# Altium schematic symbol library dungvh03-CERN_Logic.SchLib: 486 symbols (part 1 of 54)
Pins are listed as number, name and electrical type; pins without a type are passive.

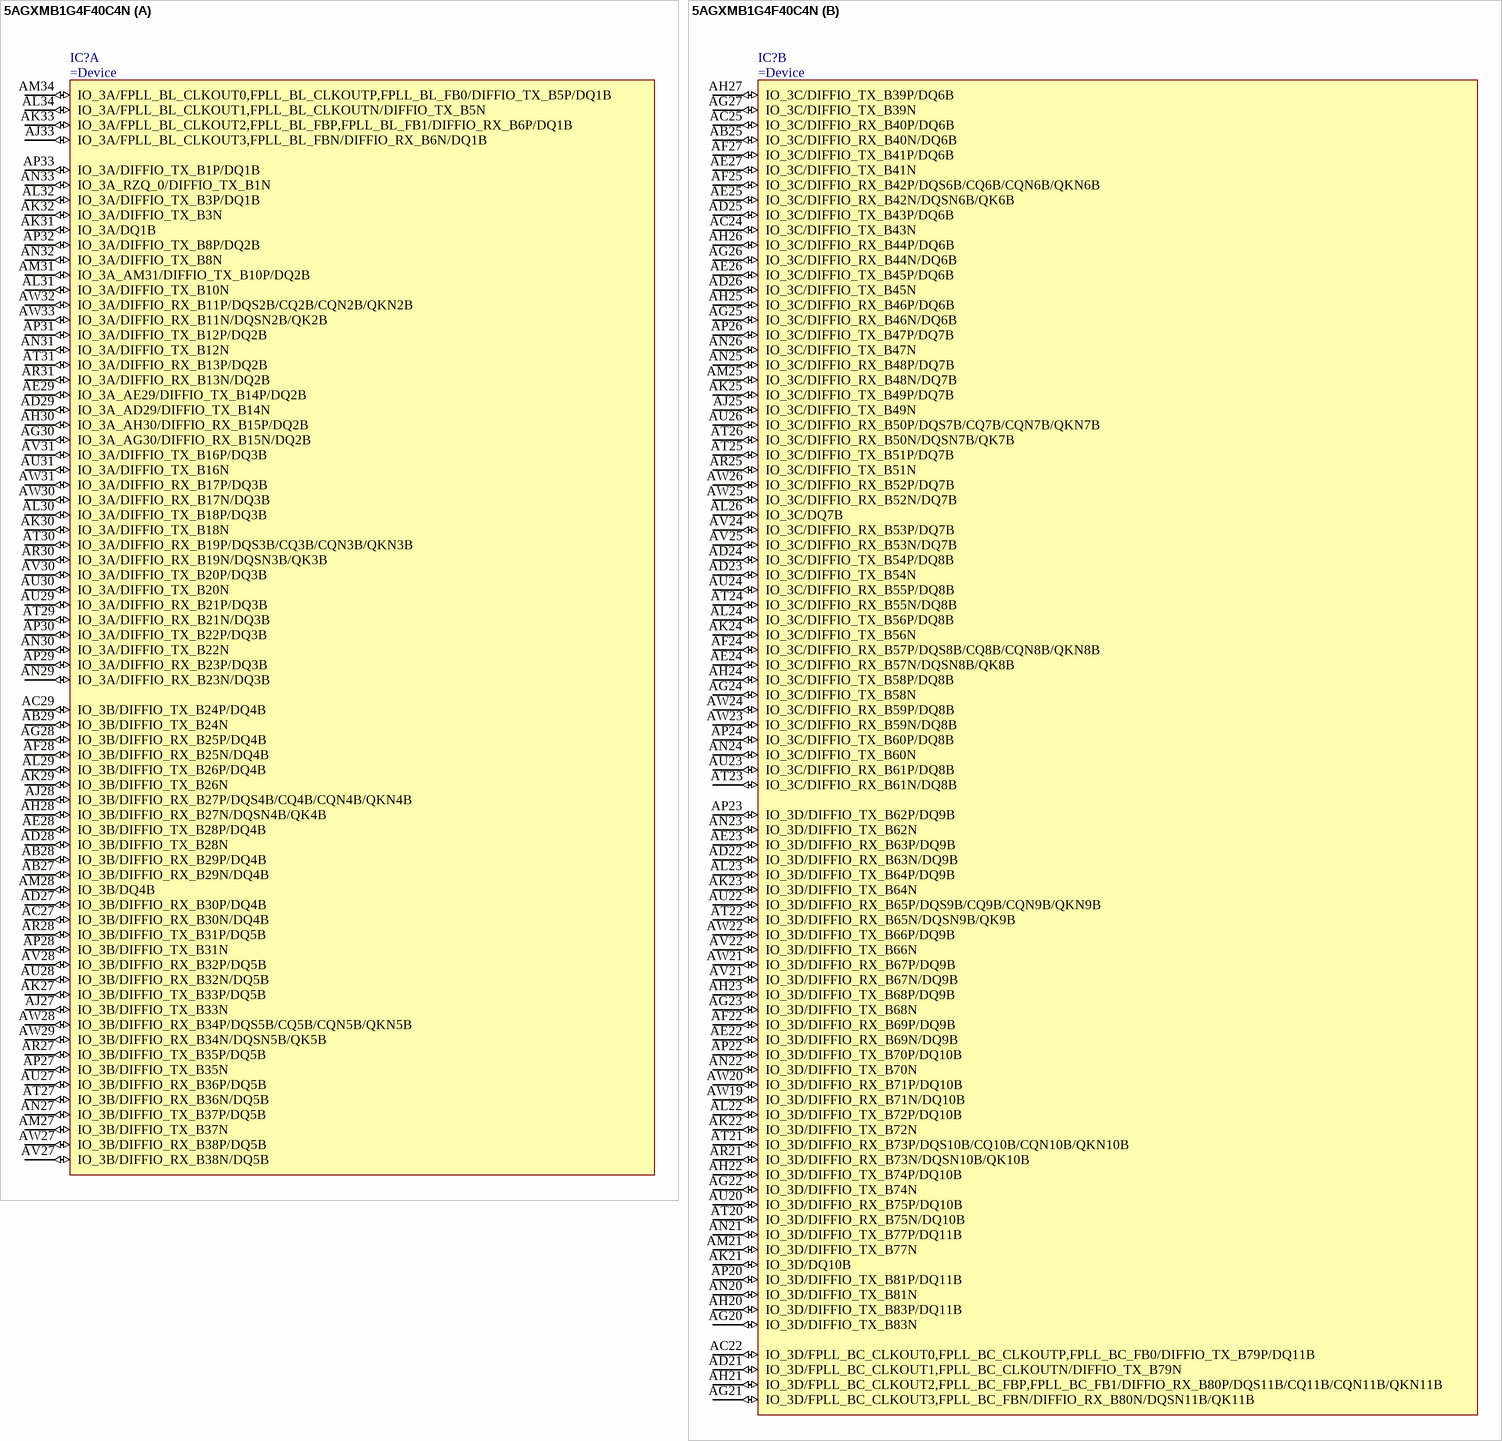
[diagram p0: symbol 5AGXMB1G4F40C4N]

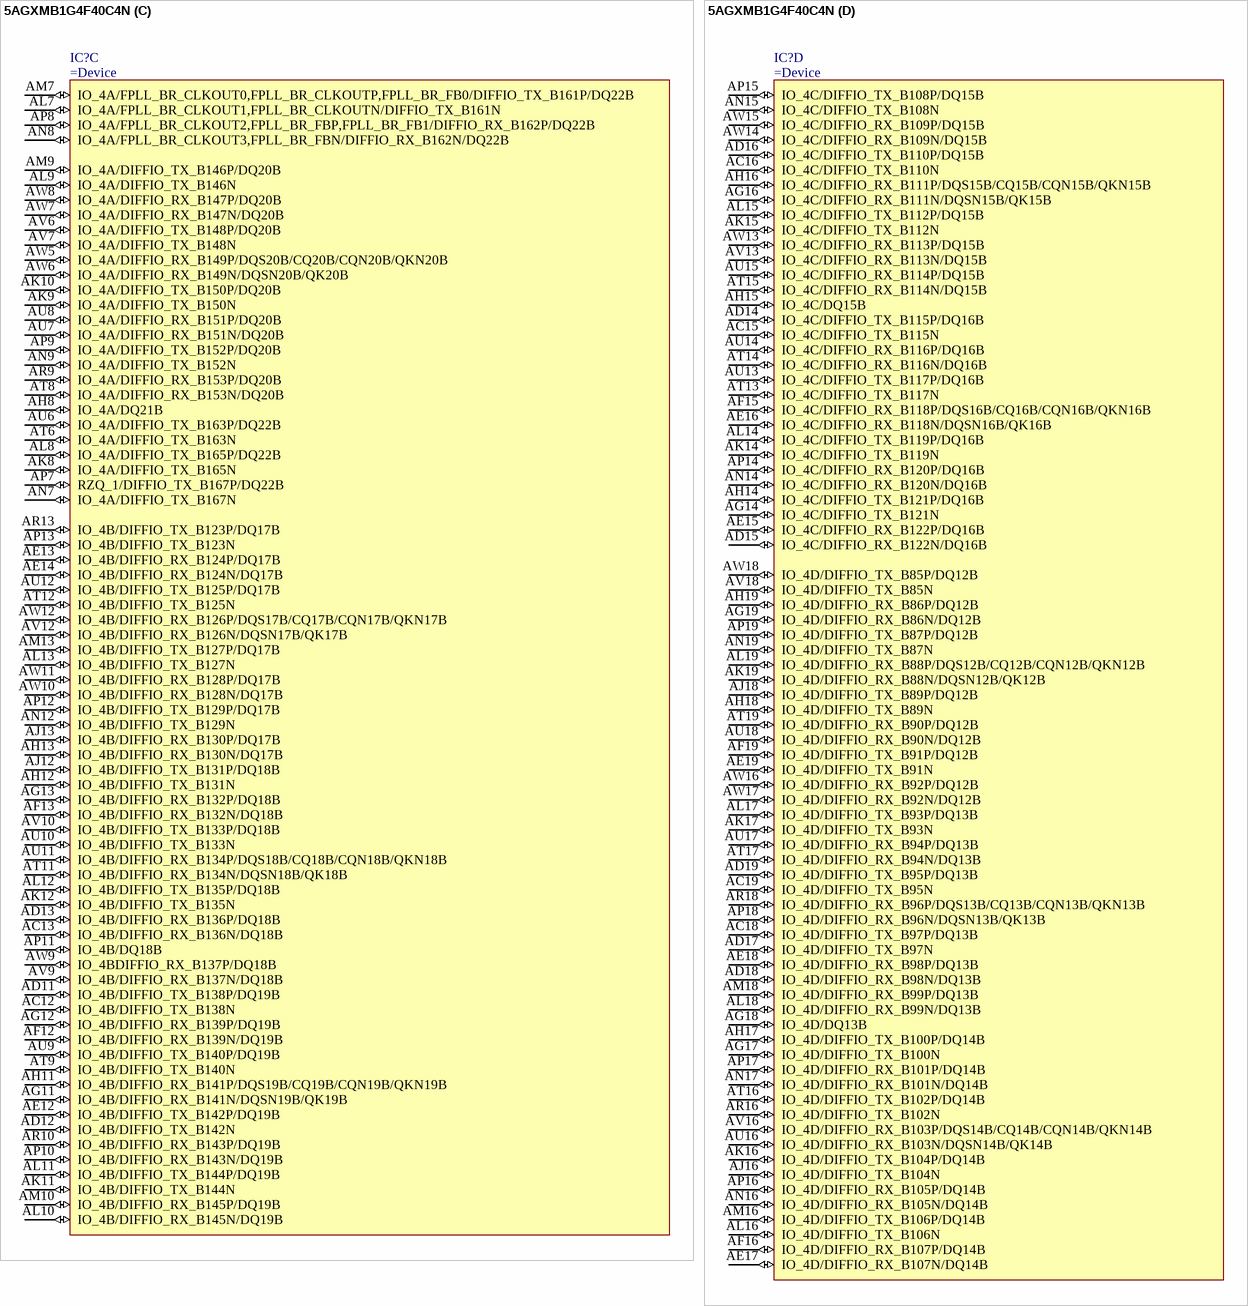
[diagram p1: symbol 5AGXMB1G4F40C4N]

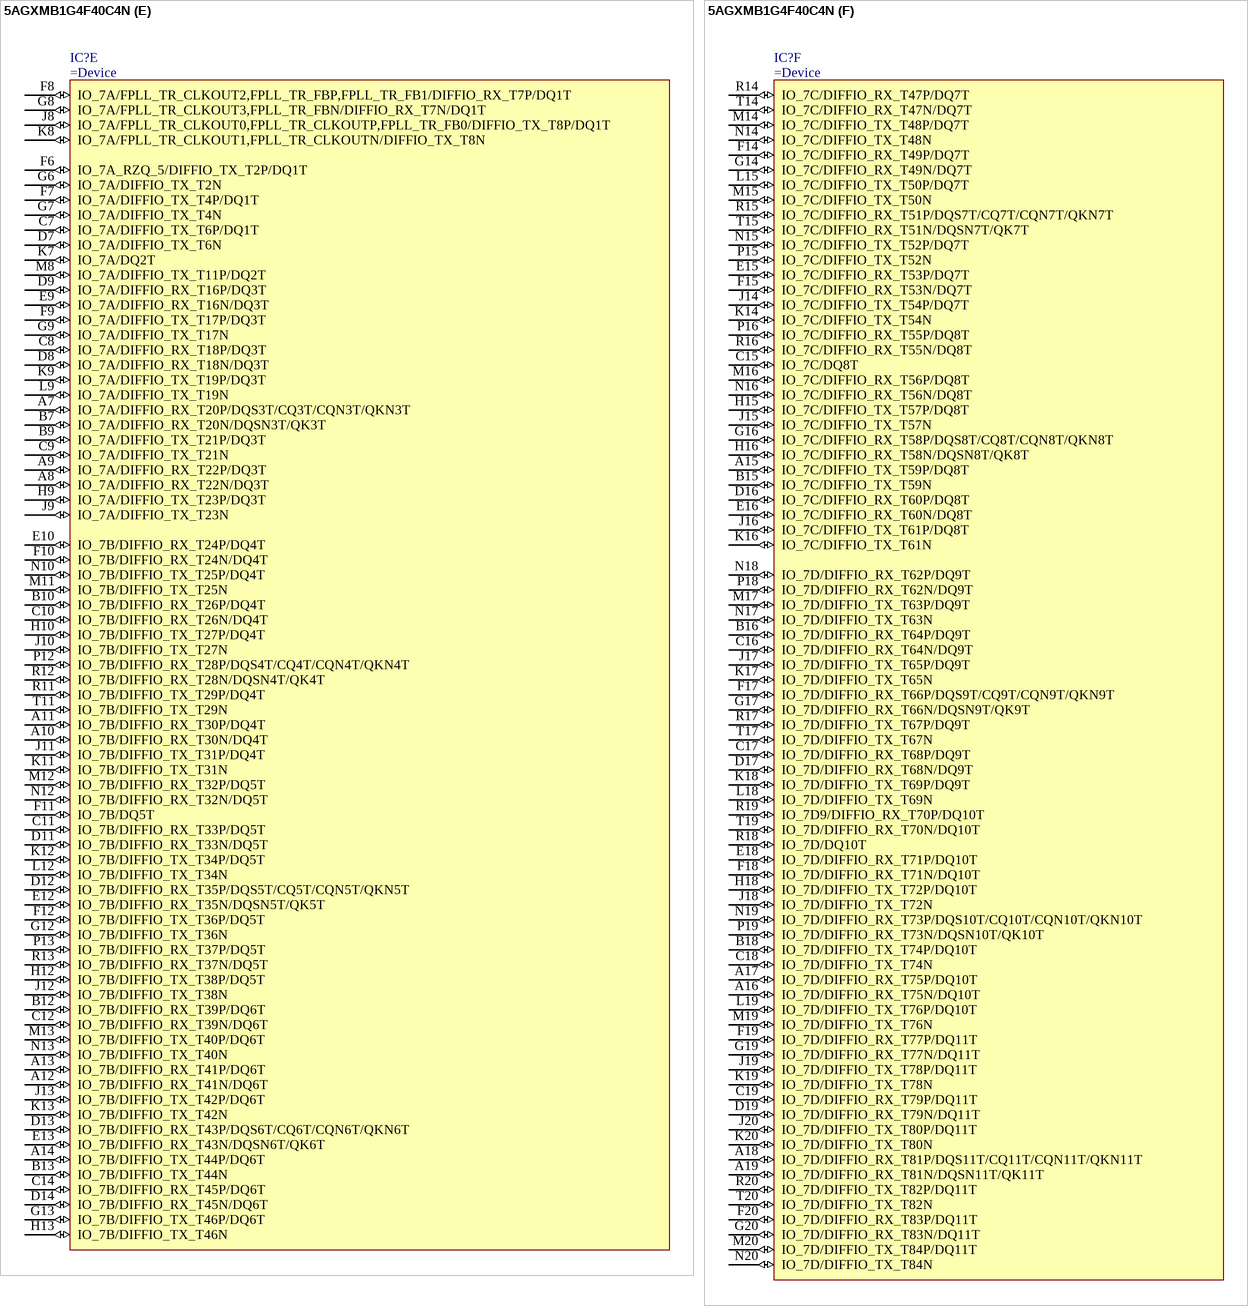
[diagram p2: symbol 5AGXMB1G4F40C4N]

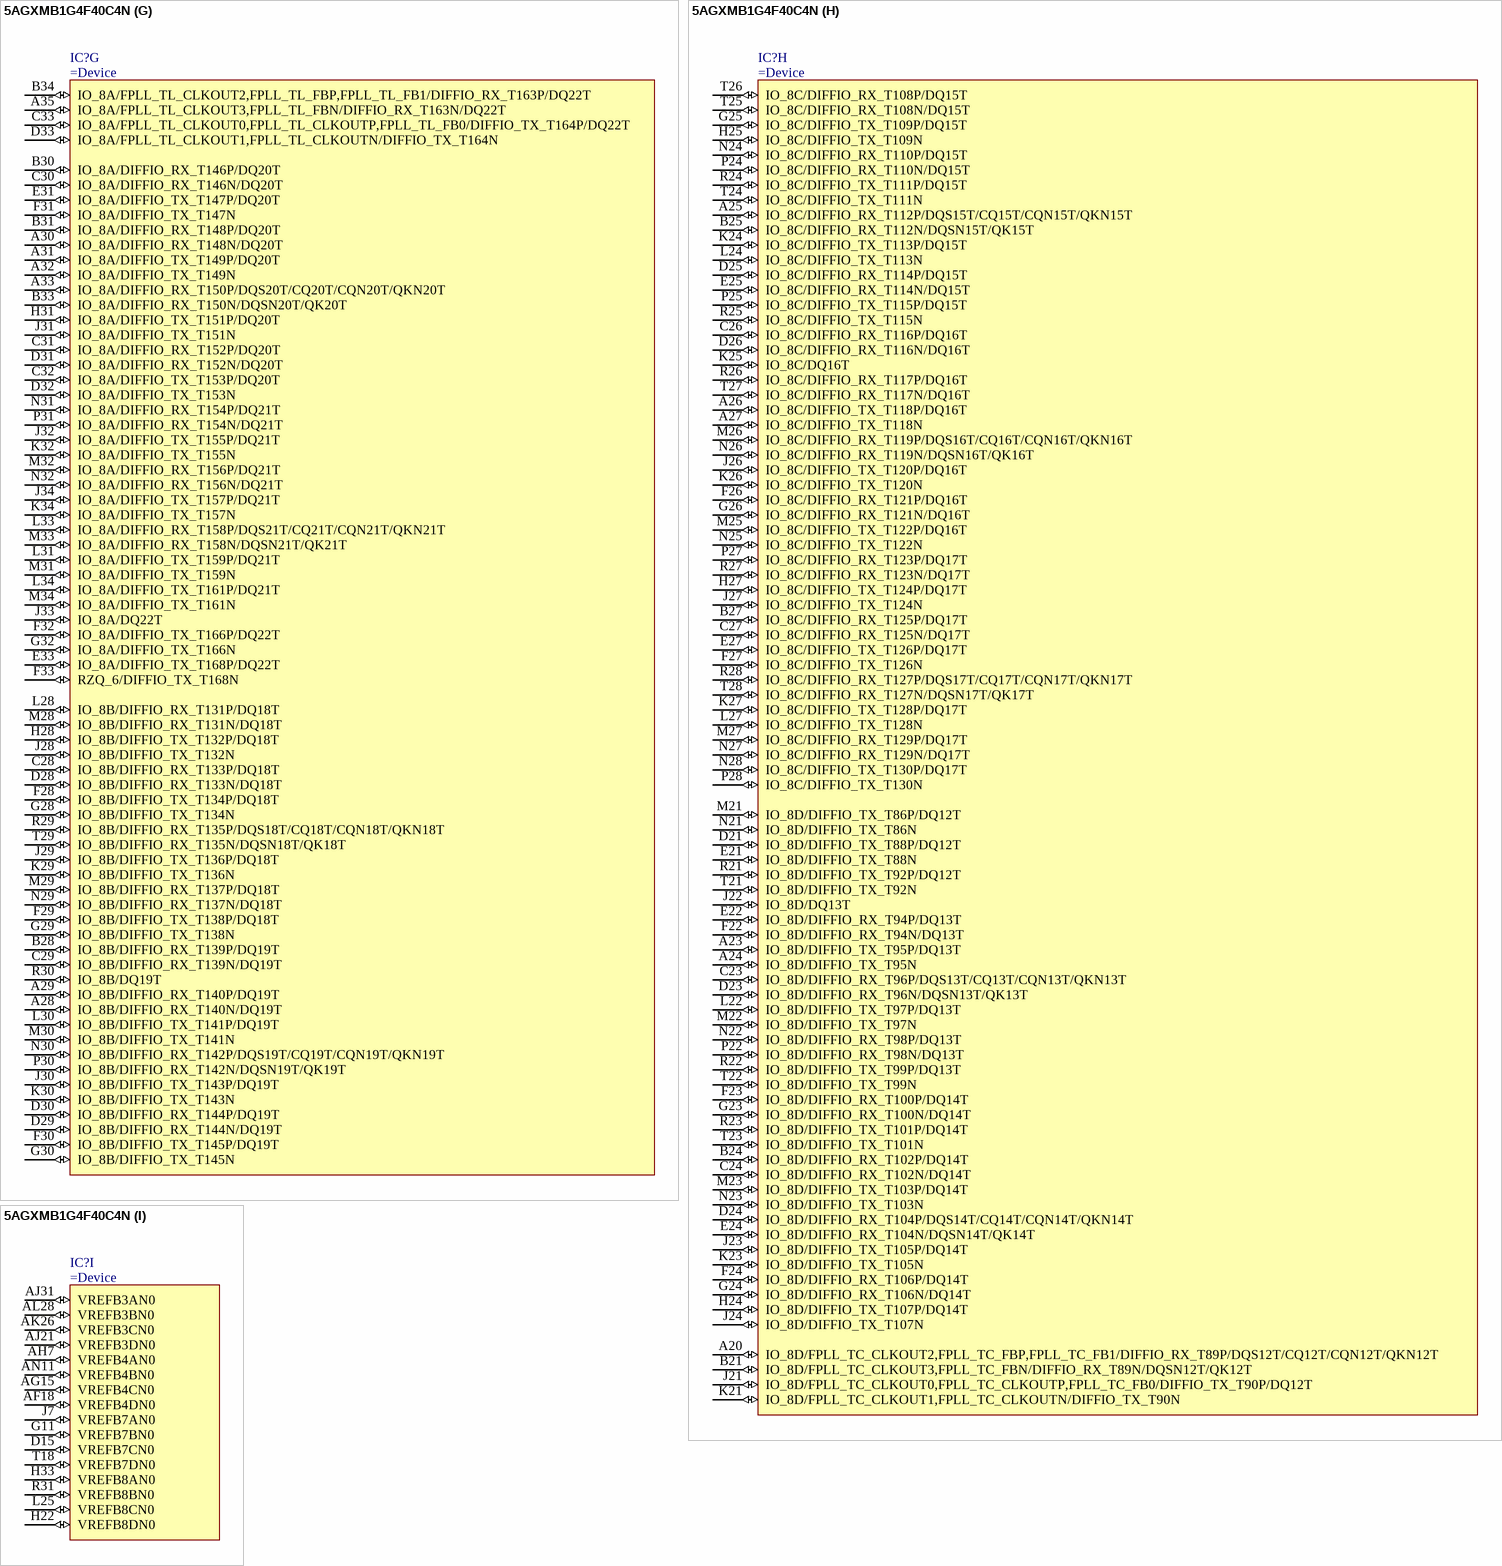
[diagram p3: symbol 5AGXMB1G4F40C4N]

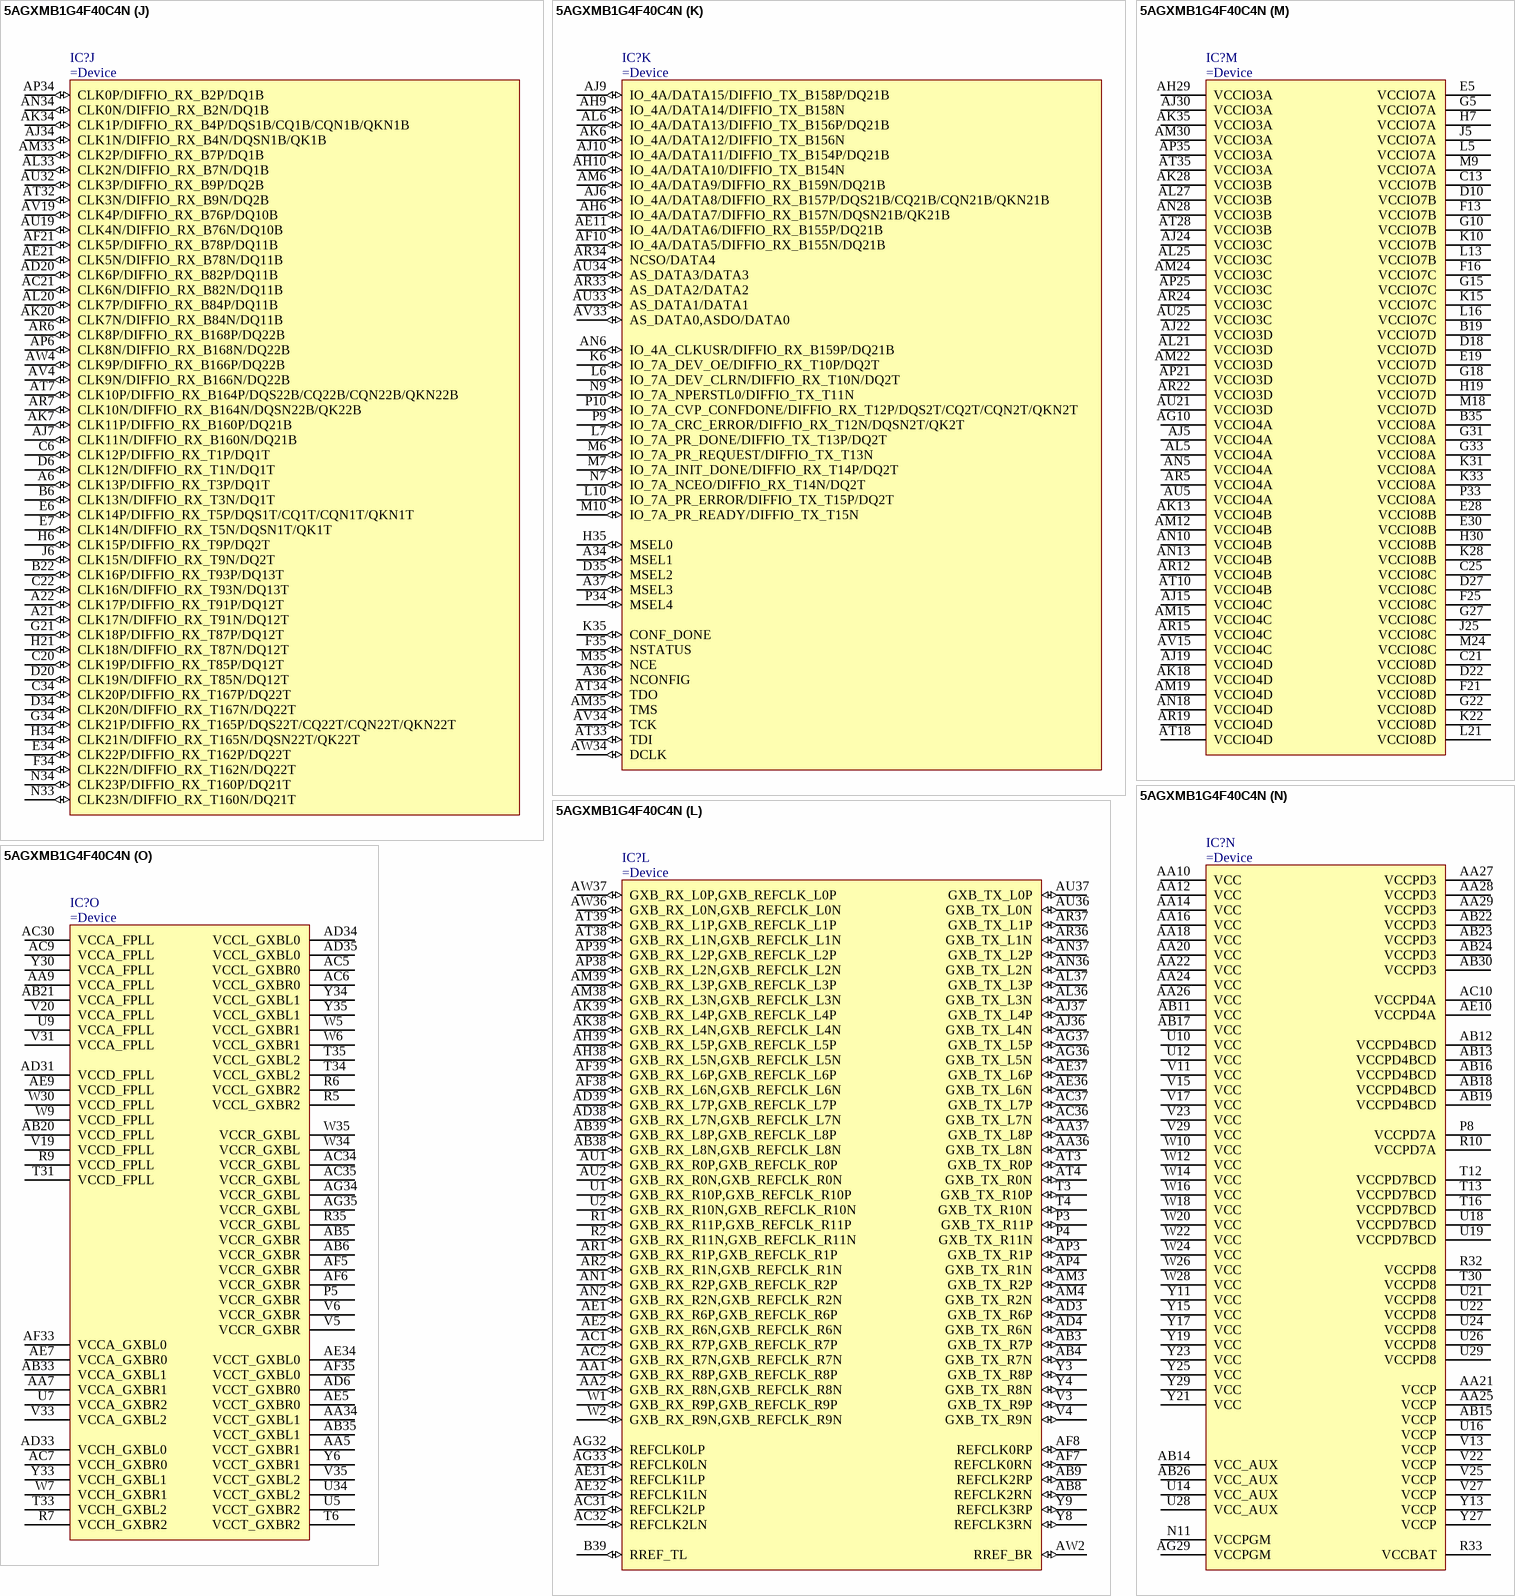
[diagram p4: symbol 5AGXMB1G4F40C4N]

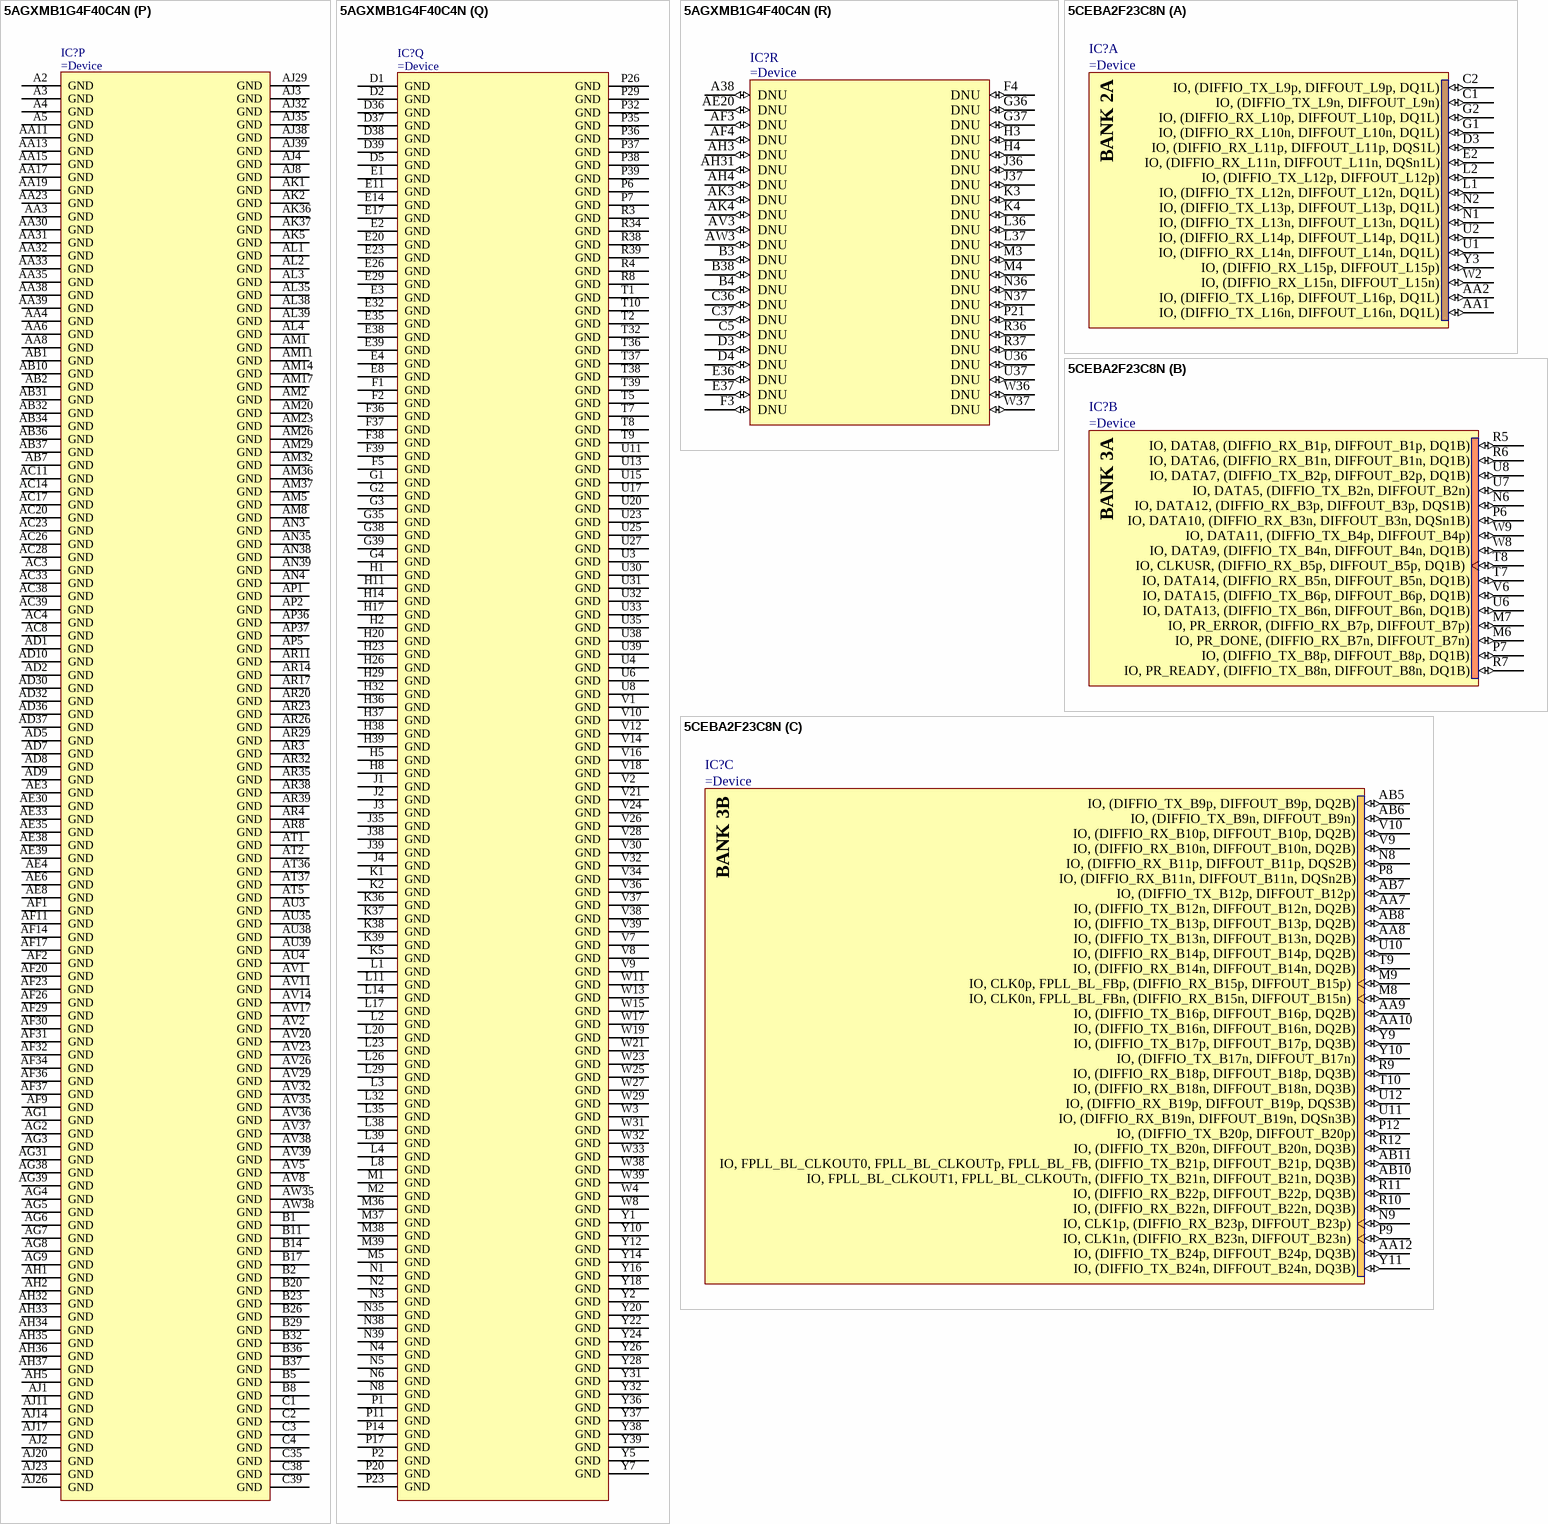
[diagram p5: symbols 5AGXMB1G4F40C4N to 5CEBA2F23C8N]

## 5AGXMB1G4F40C4N
designator IC?
Arria V GX Familly FPGA, 300k Logic Elements, 1517-Pin BGA, Speed Grade 4, Commercial Temperature Grade, Pb-Free
part A pins: AB27 IO_3B/DIFFIO_RX_B29N/DQ4B (io), AB28 IO_3B/DIFFIO_RX_B29P/DQ4B (io), AB29 IO_3B/DIFFIO_TX_B24N (io), AC27 IO_3B/DIFFIO_RX_B30N/DQ4B (io), AC29 IO_3B/DIFFIO_TX_B24P/DQ4B (io), AD27 IO_3B/DIFFIO_RX_B30P/DQ4B (io), AD28 IO_3B/DIFFIO_TX_B28N (io), AD29 IO_3A_AD29/DIFFIO_TX_B14N (io), AE28 IO_3B/DIFFIO_TX_B28P/DQ4B (io), AE29 IO_3A_AE29/DIFFIO_TX_B14P/DQ2B (io), AF28 IO_3B/DIFFIO_RX_B25N/DQ4B (io), AG28 IO_3B/DIFFIO_RX_B25P/DQ4B (io), AG30 IO_3A_AG30/DIFFIO_RX_B15N/DQ2B (io), AH28 IO_3B/DIFFIO_RX_B27N/DQSN4B/QK4B (io), AH30 IO_3A_AH30/DIFFIO_RX_B15P/DQ2B (io), AJ27 IO_3B/DIFFIO_TX_B33N (io), AJ28 IO_3B/DIFFIO_RX_B27P/DQS4B/CQ4B/CQN4B/QKN4B (io), AJ33 IO_3A/FPLL_BL_CLKOUT3,FPLL_BL_FBN/DIFFIO_RX_B6N/DQ1B (io), AK27 IO_3B/DIFFIO_TX_B33P/DQ5B (io), AK29 IO_3B/DIFFIO_TX_B26N (io), AK30 IO_3A/DIFFIO_TX_B18N (io), AK31 IO_3A/DQ1B (io), AK32 IO_3A/DIFFIO_TX_B3N (io), AK33 IO_3A/FPLL_BL_CLKOUT2,FPLL_BL_FBP,FPLL_BL_FB1/DIFFIO_RX_B6P/DQ1B (io), AL29 IO_3B/DIFFIO_TX_B26P/DQ4B (io), AL30 IO_3A/DIFFIO_TX_B18P/DQ3B (io), AL31 IO_3A/DIFFIO_TX_B10N (io), AL32 IO_3A/DIFFIO_TX_B3P/DQ1B (io), AL34 IO_3A/FPLL_BL_CLKOUT1,FPLL_BL_CLKOUTN/DIFFIO_TX_B5N (io), AM27 IO_3B/DIFFIO_TX_B37N (io), AM28 IO_3B/DQ4B (io), AM31 IO_3A_AM31/DIFFIO_TX_B10P/DQ2B (io), AM34 IO_3A/FPLL_BL_CLKOUT0,FPLL_BL_CLKOUTP,FPLL_BL_FB0/DIFFIO_TX_B5P/DQ1B (io), AN27 IO_3B/DIFFIO_TX_B37P/DQ5B (io), AN29 IO_3A/DIFFIO_RX_B23N/DQ3B (io), AN30 IO_3A/DIFFIO_TX_B22N (io), AN31 IO_3A/DIFFIO_TX_B12N (io), AN32 IO_3A/DIFFIO_TX_B8N (io), AN33 IO_3A_RZQ_0/DIFFIO_TX_B1N (io), AP27 IO_3B/DIFFIO_TX_B35N (io), AP28 IO_3B/DIFFIO_TX_B31N (io), AP29 IO_3A/DIFFIO_RX_B23P/DQ3B (io), AP30 IO_3A/DIFFIO_TX_B22P/DQ3B (io), AP31 IO_3A/DIFFIO_TX_B12P/DQ2B (io), AP32 IO_3A/DIFFIO_TX_B8P/DQ2B (io), AP33 IO_3A/DIFFIO_TX_B1P/DQ1B (io), AR27 IO_3B/DIFFIO_TX_B35P/DQ5B (io), AR28 IO_3B/DIFFIO_TX_B31P/DQ5B (io), AR30 IO_3A/DIFFIO_RX_B19N/DQSN3B/QK3B (io), AR31 IO_3A/DIFFIO_RX_B13N/DQ2B (io), AT27 IO_3B/DIFFIO_RX_B36N/DQ5B (io), AT29 IO_3A/DIFFIO_RX_B21N/DQ3B (io), AT30 IO_3A/DIFFIO_RX_B19P/DQS3B/CQ3B/CQN3B/QKN3B (io), AT31 IO_3A/DIFFIO_RX_B13P/DQ2B (io), AU27 IO_3B/DIFFIO_RX_B36P/DQ5B (io), AU28 IO_3B/DIFFIO_RX_B32N/DQ5B (io), AU29 IO_3A/DIFFIO_RX_B21P/DQ3B (io), AU30 IO_3A/DIFFIO_TX_B20N (io), AU31 IO_3A/DIFFIO_TX_B16N (io), AV27 IO_3B/DIFFIO_RX_B38N/DQ5B (io), AV28 IO_3B/DIFFIO_RX_B32P/DQ5B (io), AV30 IO_3A/DIFFIO_TX_B20P/DQ3B (io), AV31 IO_3A/DIFFIO_TX_B16P/DQ3B (io), AW27 IO_3B/DIFFIO_RX_B38P/DQ5B (io), AW28 IO_3B/DIFFIO_RX_B34P/DQS5B/CQ5B/CQN5B/QKN5B (io), AW29 IO_3B/DIFFIO_RX_B34N/DQSN5B/QK5B (io), AW30 IO_3A/DIFFIO_RX_B17N/DQ3B (io), AW31 IO_3A/DIFFIO_RX_B17P/DQ3B (io), AW32 IO_3A/DIFFIO_RX_B11P/DQS2B/CQ2B/CQN2B/QKN2B (io), AW33 IO_3A/DIFFIO_RX_B11N/DQSN2B/QK2B (io)
part B pins: AB25 IO_3C/DIFFIO_RX_B40N/DQ6B (io), AC22 IO_3D/FPLL_BC_CLKOUT0,FPLL_BC_CLKOUTP,FPLL_BC_FB0/DIFFIO_TX_B79P/DQ11B (io), AC24 IO_3C/DIFFIO_TX_B43N (io), AC25 IO_3C/DIFFIO_RX_B40P/DQ6B (io), AD21 IO_3D/FPLL_BC_CLKOUT1,FPLL_BC_CLKOUTN/DIFFIO_TX_B79N (io), AD22 IO_3D/DIFFIO_RX_B63N/DQ9B (io), AD23 IO_3C/DIFFIO_TX_B54N (io), AD24 IO_3C/DIFFIO_TX_B54P/DQ8B (io), AD25 IO_3C/DIFFIO_TX_B43P/DQ6B (io), AD26 IO_3C/DIFFIO_TX_B45N (io), AE22 IO_3D/DIFFIO_RX_B69N/DQ9B (io), AE23 IO_3D/DIFFIO_RX_B63P/DQ9B (io), AE24 IO_3C/DIFFIO_RX_B57N/DQSN8B/QK8B (io), AE25 IO_3C/DIFFIO_RX_B42N/DQSN6B/QK6B (io), AE26 IO_3C/DIFFIO_TX_B45P/DQ6B (io), AE27 IO_3C/DIFFIO_TX_B41N (io), AF22 IO_3D/DIFFIO_RX_B69P/DQ9B (io), AF24 IO_3C/DIFFIO_RX_B57P/DQS8B/CQ8B/CQN8B/QKN8B (io), AF25 IO_3C/DIFFIO_RX_B42P/DQS6B/CQ6B/CQN6B/QKN6B (io), AF27 IO_3C/DIFFIO_TX_B41P/DQ6B (io), AG20 IO_3D/DIFFIO_TX_B83N (io), AG21 IO_3D/FPLL_BC_CLKOUT3,FPLL_BC_FBN/DIFFIO_RX_B80N/DQSN11B/QK11B (io), AG22 IO_3D/DIFFIO_TX_B74N (io), AG23 IO_3D/DIFFIO_TX_B68N (io), AG24 IO_3C/DIFFIO_TX_B58N (io), AG25 IO_3C/DIFFIO_RX_B46N/DQ6B (io), AG26 IO_3C/DIFFIO_RX_B44N/DQ6B (io), AG27 IO_3C/DIFFIO_TX_B39N (io), AH20 IO_3D/DIFFIO_TX_B83P/DQ11B (io), AH21 IO_3D/FPLL_BC_CLKOUT2,FPLL_BC_FBP,FPLL_BC_FB1/DIFFIO_RX_B80P/DQS11B/CQ11B/CQN11B/QKN11B (io), AH22 IO_3D/DIFFIO_TX_B74P/DQ10B (io), AH23 IO_3D/DIFFIO_TX_B68P/DQ9B (io), AH24 IO_3C/DIFFIO_TX_B58P/DQ8B (io), AH25 IO_3C/DIFFIO_RX_B46P/DQ6B (io), AH26 IO_3C/DIFFIO_RX_B44P/DQ6B (io), AH27 IO_3C/DIFFIO_TX_B39P/DQ6B (io), AJ25 IO_3C/DIFFIO_TX_B49N (io), AK21 IO_3D/DQ10B (io), AK22 IO_3D/DIFFIO_TX_B72N (io), AK23 IO_3D/DIFFIO_TX_B64N (io), AK24 IO_3C/DIFFIO_TX_B56N (io), AK25 IO_3C/DIFFIO_TX_B49P/DQ7B (io), AL22 IO_3D/DIFFIO_TX_B72P/DQ10B (io), AL23 IO_3D/DIFFIO_TX_B64P/DQ9B (io), AL24 IO_3C/DIFFIO_TX_B56P/DQ8B (io), AL26 IO_3C/DQ7B (io), AM21 IO_3D/DIFFIO_TX_B77N (io), AM25 IO_3C/DIFFIO_RX_B48N/DQ7B (io), AN20 IO_3D/DIFFIO_TX_B81N (io), AN21 IO_3D/DIFFIO_TX_B77P/DQ11B (io), AN22 IO_3D/DIFFIO_TX_B70N (io), AN23 IO_3D/DIFFIO_TX_B62N (io), AN24 IO_3C/DIFFIO_TX_B60N (io), AN25 IO_3C/DIFFIO_RX_B48P/DQ7B (io), AN26 IO_3C/DIFFIO_TX_B47N (io), AP20 IO_3D/DIFFIO_TX_B81P/DQ11B (io), AP22 IO_3D/DIFFIO_TX_B70P/DQ10B (io), AP23 IO_3D/DIFFIO_TX_B62P/DQ9B (io), AP24 IO_3C/DIFFIO_TX_B60P/DQ8B (io), AP26 IO_3C/DIFFIO_TX_B47P/DQ7B (io), AR21 IO_3D/DIFFIO_RX_B73N/DQSN10B/QK10B (io), AR25 IO_3C/DIFFIO_TX_B51N (io), AT20 IO_3D/DIFFIO_RX_B75N/DQ10B (io), AT21 IO_3D/DIFFIO_RX_B73P/DQS10B/CQ10B/CQN10B/QKN10B (io), AT22 IO_3D/DIFFIO_RX_B65N/DQSN9B/QK9B (io), AT23 IO_3C/DIFFIO_RX_B61N/DQ8B (io), AT24 IO_3C/DIFFIO_RX_B55N/DQ8B (io), AT25 IO_3C/DIFFIO_TX_B51P/DQ7B (io), AT26 IO_3C/DIFFIO_RX_B50N/DQSN7B/QK7B (io), AU20 IO_3D/DIFFIO_RX_B75P/DQ10B (io), AU22 IO_3D/DIFFIO_RX_B65P/DQS9B/CQ9B/CQN9B/QKN9B (io), AU23 IO_3C/DIFFIO_RX_B61P/DQ8B (io), AU24 IO_3C/DIFFIO_RX_B55P/DQ8B (io), AU26 IO_3C/DIFFIO_RX_B50P/DQS7B/CQ7B/CQN7B/QKN7B (io), AV21 IO_3D/DIFFIO_RX_B67N/DQ9B (io), AV22 IO_3D/DIFFIO_TX_B66N (io), AV24 IO_3C/DIFFIO_RX_B53P/DQ7B (io), AV25 IO_3C/DIFFIO_RX_B53N/DQ7B (io), AW19 IO_3D/DIFFIO_RX_B71N/DQ10B (io), AW20 IO_3D/DIFFIO_RX_B71P/DQ10B (io), AW21 IO_3D/DIFFIO_RX_B67P/DQ9B (io), AW22 IO_3D/DIFFIO_TX_B66P/DQ9B (io), AW23 IO_3C/DIFFIO_RX_B59N/DQ8B (io), AW24 IO_3C/DIFFIO_RX_B59P/DQ8B (io), AW25 IO_3C/DIFFIO_RX_B52N/DQ7B (io), AW26 IO_3C/DIFFIO_RX_B52P/DQ7B (io)
part C pins: AC12 IO_4B/DIFFIO_TX_B138N (io), AC13 IO_4B/DIFFIO_RX_B136N/DQ18B (io), AD11 IO_4B/DIFFIO_TX_B138P/DQ19B (io), AD12 IO_4B/DIFFIO_TX_B142N (io), AD13 IO_4B/DIFFIO_RX_B136P/DQ18B (io), AE12 IO_4B/DIFFIO_TX_B142P/DQ19B (io), AE13 IO_4B/DIFFIO_RX_B124P/DQ17B (io), AE14 IO_4B/DIFFIO_RX_B124N/DQ17B (io), AF12 IO_4B/DIFFIO_RX_B139N/DQ19B (io), AF13 IO_4B/DIFFIO_RX_B132N/DQ18B (io), AG11 IO_4B/DIFFIO_RX_B141N/DQSN19B/QK19B (io), AG12 IO_4B/DIFFIO_RX_B139P/DQ19B (io), AG13 IO_4B/DIFFIO_RX_B132P/DQ18B (io), AH8 IO_4A/DQ21B (io), AH11 IO_4B/DIFFIO_RX_B141P/DQS19B/CQ19B/CQN19B/QKN19B (io), AH12 IO_4B/DIFFIO_TX_B131N (io), AH13 IO_4B/DIFFIO_RX_B130N/DQ17B (io), AJ12 IO_4B/DIFFIO_TX_B131P/DQ18B (io), AJ13 IO_4B/DIFFIO_RX_B130P/DQ17B (io), AK8 IO_4A/DIFFIO_TX_B165N (io), AK9 IO_4A/DIFFIO_TX_B150N (io), AK10 IO_4A/DIFFIO_TX_B150P/DQ20B (io), AK11 IO_4B/DIFFIO_TX_B144N (io), AK12 IO_4B/DIFFIO_TX_B135N (io), AL7 IO_4A/FPLL_BR_CLKOUT1,FPLL_BR_CLKOUTN/DIFFIO_TX_B161N (io), AL8 IO_4A/DIFFIO_TX_B165P/DQ22B (io), AL9 IO_4A/DIFFIO_TX_B146N (io), AL10 IO_4B/DIFFIO_RX_B145N/DQ19B (io), AL11 IO_4B/DIFFIO_TX_B144P/DQ19B (io), AL12 IO_4B/DIFFIO_TX_B135P/DQ18B (io), AL13 IO_4B/DIFFIO_TX_B127N (io), AM7 IO_4A/FPLL_BR_CLKOUT0,FPLL_BR_CLKOUTP,FPLL_BR_FB0/DIFFIO_TX_B161P/DQ22B (io), AM9 IO_4A/DIFFIO_TX_B146P/DQ20B (io), AM10 IO_4B/DIFFIO_RX_B145P/DQ19B (io), AM13 IO_4B/DIFFIO_TX_B127P/DQ17B (io), AN7 IO_4A/DIFFIO_TX_B167N (io), AN8 IO_4A/FPLL_BR_CLKOUT3,FPLL_BR_FBN/DIFFIO_RX_B162N/DQ22B (io), AN9 IO_4A/DIFFIO_TX_B152N (io), AN12 IO_4B/DIFFIO_TX_B129N (io), AP7 RZQ_1/DIFFIO_TX_B167P/DQ22B (io), AP8 IO_4A/FPLL_BR_CLKOUT2,FPLL_BR_FBP,FPLL_BR_FB1/DIFFIO_RX_B162P/DQ22B (io), AP9 IO_4A/DIFFIO_TX_B152P/DQ20B (io), AP10 IO_4B/DIFFIO_RX_B143N/DQ19B (io), AP11 IO_4B/DQ18B (io), AP12 IO_4B/DIFFIO_TX_B129P/DQ17B (io), AP13 IO_4B/DIFFIO_TX_B123N (io), AR9 IO_4A/DIFFIO_RX_B153P/DQ20B (io), AR10 IO_4B/DIFFIO_RX_B143P/DQ19B (io), AR13 IO_4B/DIFFIO_TX_B123P/DQ17B (io), AT6 IO_4A/DIFFIO_TX_B163N (io), AT8 IO_4A/DIFFIO_RX_B153N/DQ20B (io), AT9 IO_4B/DIFFIO_TX_B140N (io), AT11 IO_4B/DIFFIO_RX_B134N/DQSN18B/QK18B (io), AT12 IO_4B/DIFFIO_TX_B125N (io), AU6 IO_4A/DIFFIO_TX_B163P/DQ22B (io), AU7 IO_4A/DIFFIO_RX_B151N/DQ20B (io), AU8 IO_4A/DIFFIO_RX_B151P/DQ20B (io), AU9 IO_4B/DIFFIO_TX_B140P/DQ19B (io), AU10 IO_4B/DIFFIO_TX_B133N (io), AU11 IO_4B/DIFFIO_RX_B134P/DQS18B/CQ18B/CQN18B/QKN18B (io), AU12 IO_4B/DIFFIO_TX_B125P/DQ17B (io), AV6 IO_4A/DIFFIO_TX_B148P/DQ20B (io), AV7 IO_4A/DIFFIO_TX_B148N (io), AV9 IO_4B/DIFFIO_RX_B137N/DQ18B (io), AV10 IO_4B/DIFFIO_TX_B133P/DQ18B (io), AV12 IO_4B/DIFFIO_RX_B126N/DQSN17B/QK17B (io), AW5 IO_4A/DIFFIO_RX_B149P/DQS20B/CQ20B/CQN20B/QKN20B (io), AW6 IO_4A/DIFFIO_RX_B149N/DQSN20B/QK20B (io), AW7 IO_4A/DIFFIO_RX_B147N/DQ20B (io), AW8 IO_4A/DIFFIO_RX_B147P/DQ20B (io), AW9 IO_4BDIFFIO_RX_B137P/DQ18B (io), AW10 IO_4B/DIFFIO_RX_B128N/DQ17B (io), AW11 IO_4B/DIFFIO_RX_B128P/DQ17B (io), AW12 IO_4B/DIFFIO_RX_B126P/DQS17B/CQ17B/CQN17B/QKN17B (io)
part D pins: AC15 IO_4C/DIFFIO_TX_B115N (io), AC16 IO_4C/DIFFIO_TX_B110N (io), AC18 IO_4D/DIFFIO_TX_B97P/DQ13B (io), AC19 IO_4D/DIFFIO_TX_B95N (io), AD14 IO_4C/DIFFIO_TX_B115P/DQ16B (io), AD15 IO_4C/DIFFIO_RX_B122N/DQ16B (io), AD16 IO_4C/DIFFIO_TX_B110P/DQ15B (io), AD17 IO_4D/DIFFIO_TX_B97N (io), AD18 IO_4D/DIFFIO_RX_B98N/DQ13B (io), AD19 IO_4D/DIFFIO_TX_B95P/DQ13B (io), AE15 IO_4C/DIFFIO_RX_B122P/DQ16B (io), AE16 IO_4C/DIFFIO_RX_B118N/DQSN16B/QK16B (io), AE17 IO_4D/DIFFIO_RX_B107N/DQ14B (io), AE18 IO_4D/DIFFIO_RX_B98P/DQ13B (io), AE19 IO_4D/DIFFIO_TX_B91N (io), AF15 IO_4C/DIFFIO_RX_B118P/DQS16B/CQ16B/CQN16B/QKN16B (io), AF16 IO_4D/DIFFIO_RX_B107P/DQ14B (io), AF19 IO_4D/DIFFIO_TX_B91P/DQ12B (io), AG14 IO_4C/DIFFIO_TX_B121N (io), AG16 IO_4C/DIFFIO_RX_B111N/DQSN15B/QK15B (io), AG17 IO_4D/DIFFIO_TX_B100N (io), AG18 IO_4D/DQ13B (io), AG19 IO_4D/DIFFIO_RX_B86N/DQ12B (io), AH14 IO_4C/DIFFIO_TX_B121P/DQ16B (io), AH15 IO_4C/DQ15B (io), AH16 IO_4C/DIFFIO_RX_B111P/DQS15B/CQ15B/CQN15B/QKN15B (io), AH17 IO_4D/DIFFIO_TX_B100P/DQ14B (io), AH18 IO_4D/DIFFIO_TX_B89N (io), AH19 IO_4D/DIFFIO_RX_B86P/DQ12B (io), AJ16 IO_4D/DIFFIO_TX_B104N (io), AJ18 IO_4D/DIFFIO_TX_B89P/DQ12B (io), AK14 IO_4C/DIFFIO_TX_B119N (io), AK15 IO_4C/DIFFIO_TX_B112N (io), AK16 IO_4D/DIFFIO_TX_B104P/DQ14B (io), AK17 IO_4D/DIFFIO_TX_B93N (io), AK19 IO_4D/DIFFIO_RX_B88N/DQSN12B/QK12B (io), AL14 IO_4C/DIFFIO_TX_B119P/DQ16B (io), AL15 IO_4C/DIFFIO_TX_B112P/DQ15B (io), AL16 IO_4D/DIFFIO_TX_B106N (io), AL17 IO_4D/DIFFIO_TX_B93P/DQ13B (io), AL18 IO_4D/DIFFIO_RX_B99N/DQ13B (io), AL19 IO_4D/DIFFIO_RX_B88P/DQS12B/CQ12B/CQN12B/QKN12B (io), AM16 IO_4D/DIFFIO_TX_B106P/DQ14B (io), AM18 IO_4D/DIFFIO_RX_B99P/DQ13B (io), AN14 IO_4C/DIFFIO_RX_B120N/DQ16B (io), AN15 IO_4C/DIFFIO_TX_B108N (io), AN16 IO_4D/DIFFIO_RX_B105N/DQ14B (io), AN17 IO_4D/DIFFIO_RX_B101N/DQ14B (io), AN19 IO_4D/DIFFIO_TX_B87N (io), AP14 IO_4C/DIFFIO_RX_B120P/DQ16B (io), AP15 IO_4C/DIFFIO_TX_B108P/DQ15B (io), AP16 IO_4D/DIFFIO_RX_B105P/DQ14B (io), AP17 IO_4D/DIFFIO_RX_B101P/DQ14B (io), AP18 IO_4D/DIFFIO_RX_B96N/DQSN13B/QK13B (io), AP19 IO_4D/DIFFIO_TX_B87P/DQ12B (io), AR16 IO_4D/DIFFIO_TX_B102N (io), AR18 IO_4D/DIFFIO_RX_B96P/DQS13B/CQ13B/CQN13B/QKN13B (io), AT13 IO_4C/DIFFIO_TX_B117N (io), AT14 IO_4C/DIFFIO_RX_B116N/DQ16B (io), AT15 IO_4C/DIFFIO_RX_B114N/DQ15B (io), AT16 IO_4D/DIFFIO_TX_B102P/DQ14B (io), AT17 IO_4D/DIFFIO_RX_B94N/DQ13B (io), AT19 IO_4D/DIFFIO_RX_B90P/DQ12B (io), AU13 IO_4C/DIFFIO_TX_B117P/DQ16B (io), AU14 IO_4C/DIFFIO_RX_B116P/DQ16B (io), AU15 IO_4C/DIFFIO_RX_B114P/DQ15B (io), AU16 IO_4D/DIFFIO_RX_B103N/DQSN14B/QK14B (io), AU17 IO_4D/DIFFIO_RX_B94P/DQ13B (io), AU18 IO_4D/DIFFIO_RX_B90N/DQ12B (io), AV13 IO_4C/DIFFIO_RX_B113N/DQ15B (io), AV16 IO_4D/DIFFIO_RX_B103P/DQS14B/CQ14B/CQN14B/QKN14B (io), AV18 IO_4D/DIFFIO_TX_B85N (io), AW13 IO_4C/DIFFIO_RX_B113P/DQ15B (io), AW14 IO_4C/DIFFIO_RX_B109N/DQ15B (io), AW15 IO_4C/DIFFIO_RX_B109P/DQ15B (io), AW16 IO_4D/DIFFIO_RX_B92P/DQ12B (io), AW17 IO_4D/DIFFIO_RX_B92N/DQ12B (io), AW18 IO_4D/DIFFIO_TX_B85P/DQ12B (io)
part E pins: A7 IO_7A/DIFFIO_RX_T20P/DQS3T/CQ3T/CQN3T/QKN3T (io), A8 IO_7A/DIFFIO_RX_T22N/DQ3T (io), A9 IO_7A/DIFFIO_RX_T22P/DQ3T (io), A10 IO_7B/DIFFIO_RX_T30N/DQ4T (io), A11 IO_7B/DIFFIO_RX_T30P/DQ4T (io), A12 IO_7B/DIFFIO_RX_T41N/DQ6T (io), A13 IO_7B/DIFFIO_RX_T41P/DQ6T (io), A14 IO_7B/DIFFIO_TX_T44P/DQ6T (io), B7 IO_7A/DIFFIO_RX_T20N/DQSN3T/QK3T (io), B9 IO_7A/DIFFIO_TX_T21P/DQ3T (io), B10 IO_7B/DIFFIO_RX_T26P/DQ4T (io), B12 IO_7B/DIFFIO_RX_T39P/DQ6T (io), B13 IO_7B/DIFFIO_TX_T44N (io), C7 IO_7A/DIFFIO_TX_T6P/DQ1T (io), C8 IO_7A/DIFFIO_RX_T18P/DQ3T (io), C9 IO_7A/DIFFIO_TX_T21N (io), C10 IO_7B/DIFFIO_RX_T26N/DQ4T (io), C11 IO_7B/DIFFIO_RX_T33P/DQ5T (io), C12 IO_7B/DIFFIO_RX_T39N/DQ6T (io), C14 IO_7B/DIFFIO_RX_T45P/DQ6T (io), D7 IO_7A/DIFFIO_TX_T6N (io), D8 IO_7A/DIFFIO_RX_T18N/DQ3T (io), D9 IO_7A/DIFFIO_RX_T16P/DQ3T (io), D11 IO_7B/DIFFIO_RX_T33N/DQ5T (io), D12 IO_7B/DIFFIO_RX_T35P/DQS5T/CQ5T/CQN5T/QKN5T (io), D13 IO_7B/DIFFIO_RX_T43P/DQS6T/CQ6T/CQN6T/QKN6T (io), D14 IO_7B/DIFFIO_RX_T45N/DQ6T (io), E9 IO_7A/DIFFIO_RX_T16N/DQ3T (io), E10 IO_7B/DIFFIO_RX_T24P/DQ4T (io), E12 IO_7B/DIFFIO_RX_T35N/DQSN5T/QK5T (io), E13 IO_7B/DIFFIO_RX_T43N/DQSN6T/QK6T (io), F6 IO_7A_RZQ_5/DIFFIO_TX_T2P/DQ1T (io), F7 IO_7A/DIFFIO_TX_T4P/DQ1T (io), F8 IO_7A/FPLL_TR_CLKOUT2,FPLL_TR_FBP,FPLL_TR_FB1/DIFFIO_RX_T7P/DQ1T (io), F9 IO_7A/DIFFIO_TX_T17P/DQ3T (io), F10 IO_7B/DIFFIO_RX_T24N/DQ4T (io), F11 IO_7B/DQ5T (io), F12 IO_7B/DIFFIO_TX_T36P/DQ5T (io), G6 IO_7A/DIFFIO_TX_T2N (io), G7 IO_7A/DIFFIO_TX_T4N (io), G8 IO_7A/FPLL_TR_CLKOUT3,FPLL_TR_FBN/DIFFIO_RX_T7N/DQ1T (io), G9 IO_7A/DIFFIO_TX_T17N (io), G12 IO_7B/DIFFIO_TX_T36N (io), G13 IO_7B/DIFFIO_TX_T46P/DQ6T (io), H9 IO_7A/DIFFIO_TX_T23P/DQ3T (io), H10 IO_7B/DIFFIO_TX_T27P/DQ4T (io), H12 IO_7B/DIFFIO_TX_T38P/DQ5T (io), H13 IO_7B/DIFFIO_TX_T46N (io), J8 IO_7A/FPLL_TR_CLKOUT0,FPLL_TR_CLKOUTP,FPLL_TR_FB0/DIFFIO_TX_T8P/DQ1T (io), J9 IO_7A/DIFFIO_TX_T23N (io), J10 IO_7B/DIFFIO_TX_T27N (io), J11 IO_7B/DIFFIO_TX_T31P/DQ4T (io), J12 IO_7B/DIFFIO_TX_T38N (io), J13 IO_7B/DIFFIO_TX_T42P/DQ6T (io), K7 IO_7A/DQ2T (io), K8 IO_7A/FPLL_TR_CLKOUT1,FPLL_TR_CLKOUTN/DIFFIO_TX_T8N (io), K9 IO_7A/DIFFIO_TX_T19P/DQ3T (io), K11 IO_7B/DIFFIO_TX_T31N (io), K12 IO_7B/DIFFIO_TX_T34P/DQ5T (io), K13 IO_7B/DIFFIO_TX_T42N (io), L9 IO_7A/DIFFIO_TX_T19N (io), L12 IO_7B/DIFFIO_TX_T34N (io), M8 IO_7A/DIFFIO_TX_T11P/DQ2T (io), M11 IO_7B/DIFFIO_TX_T25N (io), M12 IO_7B/DIFFIO_RX_T32P/DQ5T (io), M13 IO_7B/DIFFIO_TX_T40P/DQ6T (io), N10 IO_7B/DIFFIO_TX_T25P/DQ4T (io), N12 IO_7B/DIFFIO_RX_T32N/DQ5T (io), N13 IO_7B/DIFFIO_TX_T40N (io), P12 IO_7B/DIFFIO_RX_T28P/DQS4T/CQ4T/CQN4T/QKN4T (io), P13 IO_7B/DIFFIO_RX_T37P/DQ5T (io), R11 IO_7B/DIFFIO_TX_T29P/DQ4T (io), R12 IO_7B/DIFFIO_RX_T28N/DQSN4T/QK4T (io), R13 IO_7B/DIFFIO_RX_T37N/DQ5T (io), T11 IO_7B/DIFFIO_TX_T29N (io)
part F pins: A15 IO_7C/DIFFIO_TX_T59P/DQ8T (io), A16 IO_7D/DIFFIO_RX_T75N/DQ10T (io), A17 IO_7D/DIFFIO_RX_T75P/DQ10T (io), A18 IO_7D/DIFFIO_RX_T81P/DQS11T/CQ11T/CQN11T/QKN11T (io), A19 IO_7D/DIFFIO_RX_T81N/DQSN11T/QK11T (io), B15 IO_7C/DIFFIO_TX_T59N (io), B16 IO_7D/DIFFIO_RX_T64P/DQ9T (io), B18 IO_7D/DIFFIO_TX_T74P/DQ10T (io), C15 IO_7C/DQ8T (io), C16 IO_7D/DIFFIO_RX_T64N/DQ9T (io), C17 IO_7D/DIFFIO_RX_T68P/DQ9T (io), C18 IO_7D/DIFFIO_TX_T74N (io), C19 IO_7D/DIFFIO_RX_T79P/DQ11T (io), D16 IO_7C/DIFFIO_RX_T60P/DQ8T (io), D17 IO_7D/DIFFIO_RX_T68N/DQ9T (io), D19 IO_7D/DIFFIO_RX_T79N/DQ11T (io), E15 IO_7C/DIFFIO_RX_T53P/DQ7T (io), E16 IO_7C/DIFFIO_RX_T60N/DQ8T (io), E18 IO_7D/DIFFIO_RX_T71P/DQ10T (io), F14 IO_7C/DIFFIO_RX_T49P/DQ7T (io), F15 IO_7C/DIFFIO_RX_T53N/DQ7T (io), F17 IO_7D/DIFFIO_RX_T66P/DQS9T/CQ9T/CQN9T/QKN9T (io), F18 IO_7D/DIFFIO_RX_T71N/DQ10T (io), F19 IO_7D/DIFFIO_RX_T77P/DQ11T (io), F20 IO_7D/DIFFIO_RX_T83P/DQ11T (io), G14 IO_7C/DIFFIO_RX_T49N/DQ7T (io), G16 IO_7C/DIFFIO_RX_T58P/DQS8T/CQ8T/CQN8T/QKN8T (io), G17 IO_7D/DIFFIO_RX_T66N/DQSN9T/QK9T (io), G19 IO_7D/DIFFIO_RX_T77N/DQ11T (io), G20 IO_7D/DIFFIO_RX_T83N/DQ11T (io), H15 IO_7C/DIFFIO_TX_T57P/DQ8T (io), H16 IO_7C/DIFFIO_RX_T58N/DQSN8T/QK8T (io), H18 IO_7D/DIFFIO_TX_T72P/DQ10T (io), J14 IO_7C/DIFFIO_TX_T54P/DQ7T (io), J15 IO_7C/DIFFIO_TX_T57N (io), J16 IO_7C/DIFFIO_TX_T61P/DQ8T (io), J17 IO_7D/DIFFIO_TX_T65P/DQ9T (io), J18 IO_7D/DIFFIO_TX_T72N (io), J19 IO_7D/DIFFIO_TX_T78P/DQ11T (io), J20 IO_7D/DIFFIO_TX_T80P/DQ11T (io), K14 IO_7C/DIFFIO_TX_T54N (io), K16 IO_7C/DIFFIO_TX_T61N (io), K17 IO_7D/DIFFIO_TX_T65N (io), K18 IO_7D/DIFFIO_TX_T69P/DQ9T (io), K19 IO_7D/DIFFIO_TX_T78N (io), K20 IO_7D/DIFFIO_TX_T80N (io), L15 IO_7C/DIFFIO_TX_T50P/DQ7T (io), L18 IO_7D/DIFFIO_TX_T69N (io), L19 IO_7D/DIFFIO_TX_T76P/DQ10T (io), M14 IO_7C/DIFFIO_TX_T48P/DQ7T (io), M15 IO_7C/DIFFIO_TX_T50N (io), M16 IO_7C/DIFFIO_RX_T56P/DQ8T (io), M17 IO_7D/DIFFIO_TX_T63P/DQ9T (io), M19 IO_7D/DIFFIO_TX_T76N (io), M20 IO_7D/DIFFIO_TX_T84P/DQ11T (io), N14 IO_7C/DIFFIO_TX_T48N (io), N15 IO_7C/DIFFIO_TX_T52P/DQ7T (io), N16 IO_7C/DIFFIO_RX_T56N/DQ8T (io), N17 IO_7D/DIFFIO_TX_T63N (io), N18 IO_7D/DIFFIO_RX_T62P/DQ9T (io), N19 IO_7D/DIFFIO_RX_T73P/DQS10T/CQ10T/CQN10T/QKN10T (io), N20 IO_7D/DIFFIO_TX_T84N (io), P15 IO_7C/DIFFIO_TX_T52N (io), P16 IO_7C/DIFFIO_RX_T55P/DQ8T (io), P18 IO_7D/DIFFIO_RX_T62N/DQ9T (io), P19 IO_7D/DIFFIO_RX_T73N/DQSN10T/QK10T (io), R14 IO_7C/DIFFIO_RX_T47P/DQ7T (io), R15 IO_7C/DIFFIO_RX_T51P/DQS7T/CQ7T/CQN7T/QKN7T (io), R16 IO_7C/DIFFIO_RX_T55N/DQ8T (io), R17 IO_7D/DIFFIO_TX_T67P/DQ9T (io), R18 IO_7D/DQ10T (io), R19 IO_7D9/DIFFIO_RX_T70P/DQ10T (io), R20 IO_7D/DIFFIO_TX_T82P/DQ11T (io), T14 IO_7C/DIFFIO_RX_T47N/DQ7T (io), T15 IO_7C/DIFFIO_RX_T51N/DQSN7T/QK7T (io), T17 IO_7D/DIFFIO_TX_T67N (io), T19 IO_7D/DIFFIO_RX_T70N/DQ10T (io), T20 IO_7D/DIFFIO_TX_T82N (io)
part G pins: A28 IO_8B/DIFFIO_RX_T140N/DQ19T (io), A29 IO_8B/DIFFIO_RX_T140P/DQ19T (io), A30 IO_8A/DIFFIO_RX_T148N/DQ20T (io), A31 IO_8A/DIFFIO_TX_T149P/DQ20T (io), A32 IO_8A/DIFFIO_TX_T149N (io), A33 IO_8A/DIFFIO_RX_T150P/DQS20T/CQ20T/CQN20T/QKN20T (io), A35 IO_8A/FPLL_TL_CLKOUT3,FPLL_TL_FBN/DIFFIO_RX_T163N/DQ22T (io), B28 IO_8B/DIFFIO_RX_T139P/DQ19T (io), B30 IO_8A/DIFFIO_RX_T146P/DQ20T (io), B31 IO_8A/DIFFIO_RX_T148P/DQ20T (io), B33 IO_8A/DIFFIO_RX_T150N/DQSN20T/QK20T (io), B34 IO_8A/FPLL_TL_CLKOUT2,FPLL_TL_FBP,FPLL_TL_FB1/DIFFIO_RX_T163P/DQ22T (io), C28 IO_8B/DIFFIO_RX_T133P/DQ18T (io), C29 IO_8B/DIFFIO_RX_T139N/DQ19T (io), C30 IO_8A/DIFFIO_RX_T146N/DQ20T (io), C31 IO_8A/DIFFIO_RX_T152P/DQ20T (io), C32 IO_8A/DIFFIO_TX_T153P/DQ20T (io), C33 IO_8A/FPLL_TL_CLKOUT0,FPLL_TL_CLKOUTP,FPLL_TL_FB0/DIFFIO_TX_T164P/DQ22T (io), D28 IO_8B/DIFFIO_RX_T133N/DQ18T (io), D29 IO_8B/DIFFIO_RX_T144N/DQ19T (io), D30 IO_8B/DIFFIO_RX_T144P/DQ19T (io), D31 IO_8A/DIFFIO_RX_T152N/DQ20T (io), D32 IO_8A/DIFFIO_TX_T153N (io), D33 IO_8A/FPLL_TL_CLKOUT1,FPLL_TL_CLKOUTN/DIFFIO_TX_T164N (io), E31 IO_8A/DIFFIO_TX_T147P/DQ20T (io), E33 IO_8A/DIFFIO_TX_T168P/DQ22T (io), F28 IO_8B/DIFFIO_TX_T134P/DQ18T (io), F29 IO_8B/DIFFIO_TX_T138P/DQ18T (io), F30 IO_8B/DIFFIO_TX_T145P/DQ19T (io), F31 IO_8A/DIFFIO_TX_T147N (io), F32 IO_8A/DIFFIO_TX_T166P/DQ22T (io), F33 RZQ_6/DIFFIO_TX_T168N (io), G28 IO_8B/DIFFIO_TX_T134N (io), G29 IO_8B/DIFFIO_TX_T138N (io), G30 IO_8B/DIFFIO_TX_T145N (io), G32 IO_8A/DIFFIO_TX_T166N (io), H28 IO_8B/DIFFIO_TX_T132P/DQ18T (io), H31 IO_8A/DIFFIO_TX_T151P/DQ20T (io), J28 IO_8B/DIFFIO_TX_T132N (io), J29 IO_8B/DIFFIO_TX_T136P/DQ18T (io), J30 IO_8B/DIFFIO_TX_T143P/DQ19T (io), J31 IO_8A/DIFFIO_TX_T151N (io), J32 IO_8A/DIFFIO_TX_T155P/DQ21T (io), J33 IO_8A/DQ22T (io), J34 IO_8A/DIFFIO_TX_T157P/DQ21T (io), K29 IO_8B/DIFFIO_TX_T136N (io), K30 IO_8B/DIFFIO_TX_T143N (io), K32 IO_8A/DIFFIO_TX_T155N (io), K34 IO_8A/DIFFIO_TX_T157N (io), L28 IO_8B/DIFFIO_RX_T131P/DQ18T (io), L30 IO_8B/DIFFIO_TX_T141P/DQ19T (io), L31 IO_8A/DIFFIO_TX_T159P/DQ21T (io), L33 IO_8A/DIFFIO_RX_T158P/DQS21T/CQ21T/CQN21T/QKN21T (io), L34 IO_8A/DIFFIO_TX_T161P/DQ21T (io), M28 IO_8B/DIFFIO_RX_T131N/DQ18T (io), M29 IO_8B/DIFFIO_RX_T137P/DQ18T (io), M30 IO_8B/DIFFIO_TX_T141N (io), M31 IO_8A/DIFFIO_TX_T159N (io), M32 IO_8A/DIFFIO_RX_T156P/DQ21T (io), M33 IO_8A/DIFFIO_RX_T158N/DQSN21T/QK21T (io), M34 IO_8A/DIFFIO_TX_T161N (io), N29 IO_8B/DIFFIO_RX_T137N/DQ18T (io), N30 IO_8B/DIFFIO_RX_T142P/DQS19T/CQ19T/CQN19T/QKN19T (io), N31 IO_8A/DIFFIO_RX_T154P/DQ21T (io), N32 IO_8A/DIFFIO_RX_T156N/DQ21T (io), P30 IO_8B/DIFFIO_RX_T142N/DQSN19T/QK19T (io), P31 IO_8A/DIFFIO_RX_T154N/DQ21T (io), R29 IO_8B/DIFFIO_RX_T135P/DQS18T/CQ18T/CQN18T/QKN18T (io), R30 IO_8B/DQ19T (io), T29 IO_8B/DIFFIO_RX_T135N/DQSN18T/QK18T (io)
part H pins: A20 IO_8D/FPLL_TC_CLKOUT2,FPLL_TC_FBP,FPLL_TC_FB1/DIFFIO_RX_T89P/DQS12T/CQ12T/CQN12T/QKN12T (io), A23 IO_8D/DIFFIO_TX_T95P/DQ13T (io), A24 IO_8D/DIFFIO_TX_T95N (io), A25 IO_8C/DIFFIO_RX_T112P/DQS15T/CQ15T/CQN15T/QKN15T (io), A26 IO_8C/DIFFIO_TX_T118P/DQ16T (io), A27 IO_8C/DIFFIO_TX_T118N (io), B21 IO_8D/FPLL_TC_CLKOUT3,FPLL_TC_FBN/DIFFIO_RX_T89N/DQSN12T/QK12T (io), B24 IO_8D/DIFFIO_RX_T102P/DQ14T (io), B25 IO_8C/DIFFIO_RX_T112N/DQSN15T/QK15T (io), B27 IO_8C/DIFFIO_RX_T125P/DQ17T (io), C23 IO_8D/DIFFIO_RX_T96P/DQS13T/CQ13T/CQN13T/QKN13T (io), C24 IO_8D/DIFFIO_RX_T102N/DQ14T (io), C26 IO_8C/DIFFIO_RX_T116P/DQ16T (io), C27 IO_8C/DIFFIO_RX_T125N/DQ17T (io), D21 IO_8D/DIFFIO_TX_T88P/DQ12T (io), D23 IO_8D/DIFFIO_RX_T96N/DQSN13T/QK13T (io), D24 IO_8D/DIFFIO_RX_T104P/DQS14T/CQ14T/CQN14T/QKN14T (io), D25 IO_8C/DIFFIO_RX_T114P/DQ15T (io), D26 IO_8C/DIFFIO_RX_T116N/DQ16T (io), E21 IO_8D/DIFFIO_TX_T88N (io), E22 IO_8D/DIFFIO_RX_T94P/DQ13T (io), E24 IO_8D/DIFFIO_RX_T104N/DQSN14T/QK14T (io), E25 IO_8C/DIFFIO_RX_T114N/DQ15T (io), E27 IO_8C/DIFFIO_TX_T126P/DQ17T (io), F22 IO_8D/DIFFIO_RX_T94N/DQ13T (io), F23 IO_8D/DIFFIO_RX_T100P/DQ14T (io), F24 IO_8D/DIFFIO_RX_T106P/DQ14T (io), F26 IO_8C/DIFFIO_RX_T121P/DQ16T (io), F27 IO_8C/DIFFIO_TX_T126N (io), G23 IO_8D/DIFFIO_RX_T100N/DQ14T (io), G24 IO_8D/DIFFIO_RX_T106N/DQ14T (io), G25 IO_8C/DIFFIO_TX_T109P/DQ15T (io), G26 IO_8C/DIFFIO_RX_T121N/DQ16T (io), H24 IO_8D/DIFFIO_TX_T107P/DQ14T (io), H25 IO_8C/DIFFIO_TX_T109N (io), H27 IO_8C/DIFFIO_TX_T124P/DQ17T (io), J21 IO_8D/FPLL_TC_CLKOUT0,FPLL_TC_CLKOUTP,FPLL_TC_FB0/DIFFIO_TX_T90P/DQ12T (io), J22 IO_8D/DQ13T (io), J23 IO_8D/DIFFIO_TX_T105P/DQ14T (io), J24 IO_8D/DIFFIO_TX_T107N (io), J26 IO_8C/DIFFIO_TX_T120P/DQ16T (io), J27 IO_8C/DIFFIO_TX_T124N (io), K21 IO_8D/FPLL_TC_CLKOUT1,FPLL_TC_CLKOUTN/DIFFIO_TX_T90N (io), K23 IO_8D/DIFFIO_TX_T105N (io), K24 IO_8C/DIFFIO_TX_T113P/DQ15T (io), K25 IO_8C/DQ16T (io), K26 IO_8C/DIFFIO_TX_T120N (io), K27 IO_8C/DIFFIO_TX_T128P/DQ17T (io), L22 IO_8D/DIFFIO_TX_T97P/DQ13T (io), L24 IO_8C/DIFFIO_TX_T113N (io), L27 IO_8C/DIFFIO_TX_T128N (io), M21 IO_8D/DIFFIO_TX_T86P/DQ12T (io), M22 IO_8D/DIFFIO_TX_T97N (io), M23 IO_8D/DIFFIO_TX_T103P/DQ14T (io), M25 IO_8C/DIFFIO_TX_T122P/DQ16T (io), M26 IO_8C/DIFFIO_RX_T119P/DQS16T/CQ16T/CQN16T/QKN16T (io), M27 IO_8C/DIFFIO_RX_T129P/DQ17T (io), N21 IO_8D/DIFFIO_TX_T86N (io), N22 IO_8D/DIFFIO_RX_T98P/DQ13T (io), N23 IO_8D/DIFFIO_TX_T103N (io), N24 IO_8C/DIFFIO_RX_T110P/DQ15T (io), N25 IO_8C/DIFFIO_TX_T122N (io), N26 IO_8C/DIFFIO_RX_T119N/DQSN16T/QK16T (io), N27 IO_8C/DIFFIO_RX_T129N/DQ17T (io), N28 IO_8C/DIFFIO_TX_T130P/DQ17T (io), P22 IO_8D/DIFFIO_RX_T98N/DQ13T (io), P24 IO_8C/DIFFIO_RX_T110N/DQ15T (io), P25 IO_8C/DIFFIO_TX_T115P/DQ15T (io), P27 IO_8C/DIFFIO_RX_T123P/DQ17T (io), P28 IO_8C/DIFFIO_TX_T130N (io), R21 IO_8D/DIFFIO_TX_T92P/DQ12T (io), R22 IO_8D/DIFFIO_TX_T99P/DQ13T (io), R23 IO_8D/DIFFIO_TX_T101P/DQ14T (io), R24 IO_8C/DIFFIO_TX_T111P/DQ15T (io), R25 IO_8C/DIFFIO_TX_T115N (io), R26 IO_8C/DIFFIO_RX_T117P/DQ16T (io), R27 IO_8C/DIFFIO_RX_T123N/DQ17T (io), R28 IO_8C/DIFFIO_RX_T127P/DQS17T/CQ17T/CQN17T/QKN17T (io), T21 IO_8D/DIFFIO_TX_T92N (io), T22 IO_8D/DIFFIO_TX_T99N (io), T23 IO_8D/DIFFIO_TX_T101N (io), T24 IO_8C/DIFFIO_TX_T111N (io), T25 IO_8C/DIFFIO_RX_T108N/DQ15T (io), T26 IO_8C/DIFFIO_RX_T108P/DQ15T (io), T27 IO_8C/DIFFIO_RX_T117N/DQ16T (io), T28 IO_8C/DIFFIO_RX_T127N/DQSN17T/QK17T (io)
part I pins: AF18 VREFB4DN0 (io), AG15 VREFB4CN0 (io), AH7 VREFB4AN0 (io), AJ21 VREFB3DN0 (io), AJ31 VREFB3AN0 (io), AK26 VREFB3CN0 (io), AL28 VREFB3BN0 (io), AN11 VREFB4BN0 (io), D15 VREFB7CN0 (io), G11 VREFB7BN0 (io), H22 VREFB8DN0 (io), H33 VREFB8AN0 (io), J7 VREFB7AN0 (io), L25 VREFB8CN0 (io), R31 VREFB8BN0 (io), T18 VREFB7DN0 (io)
part J pins: A6 CLK13P/DIFFIO_RX_T3P/DQ1T (io), A21 CLK17N/DIFFIO_RX_T91N/DQ12T (io), A22 CLK17P/DIFFIO_RX_T91P/DQ12T (io), AC21 CLK6N/DIFFIO_RX_B82N/DQ11B (io), AD20 CLK6P/DIFFIO_RX_B82P/DQ11B (io), AE21 CLK5N/DIFFIO_RX_B78N/DQ11B (io), AF21 CLK5P/DIFFIO_RX_B78P/DQ11B (io), AJ7 CLK11N/DIFFIO_RX_B160N/DQ21B (io), AJ34 CLK1N/DIFFIO_RX_B4N/DQSN1B/QK1B (io), AK7 CLK11P/DIFFIO_RX_B160P/DQ21B (io), AK20 CLK7N/DIFFIO_RX_B84N/DQ11B (io), AK34 CLK1P/DIFFIO_RX_B4P/DQS1B/CQ1B/CQN1B/QKN1B (io), AL20 CLK7P/DIFFIO_RX_B84P/DQ11B (io), AL33 CLK2N/DIFFIO_RX_B7N/DQ1B (io), AM33 CLK2P/DIFFIO_RX_B7P/DQ1B (io), AN34 CLK0N/DIFFIO_RX_B2N/DQ1B (io), AP6 CLK8N/DIFFIO_RX_B168N/DQ22B (io), AP34 CLK0P/DIFFIO_RX_B2P/DQ1B (io), AR6 CLK8P/DIFFIO_RX_B168P/DQ22B (io), AR7 CLK10N/DIFFIO_RX_B164N/DQSN22B/QK22B (io), AT7 CLK10P/DIFFIO_RX_B164P/DQS22B/CQ22B/CQN22B/QKN22B (io), AT32 CLK3N/DIFFIO_RX_B9N/DQ2B (io), AU19 CLK4N/DIFFIO_RX_B76N/DQ10B (io), AU32 CLK3P/DIFFIO_RX_B9P/DQ2B (io), AV4 CLK9N/DIFFIO_RX_B166N/DQ22B (io), AV19 CLK4P/DIFFIO_RX_B76P/DQ10B (io), AW4 CLK9P/DIFFIO_RX_B166P/DQ22B (io), B6 CLK13N/DIFFIO_RX_T3N/DQ1T (io), B22 CLK16P/DIFFIO_RX_T93P/DQ13T (io), C6 CLK12P/DIFFIO_RX_T1P/DQ1T (io), C20 CLK19P/DIFFIO_RX_T85P/DQ12T (io), C22 CLK16N/DIFFIO_RX_T93N/DQ13T (io), C34 CLK20P/DIFFIO_RX_T167P/DQ22T (io), D6 CLK12N/DIFFIO_RX_T1N/DQ1T (io), D20 CLK19N/DIFFIO_RX_T85N/DQ12T (io), D34 CLK20N/DIFFIO_RX_T167N/DQ22T (io), E6 CLK14P/DIFFIO_RX_T5P/DQS1T/CQ1T/CQN1T/QKN1T (io), E7 CLK14N/DIFFIO_RX_T5N/DQSN1T/QK1T (io), E34 CLK22P/DIFFIO_RX_T162P/DQ22T (io), F34 CLK22N/DIFFIO_RX_T162N/DQ22T (io), G21 CLK18P/DIFFIO_RX_T87P/DQ12T (io), G34 CLK21P/DIFFIO_RX_T165P/DQS22T/CQ22T/CQN22T/QKN22T (io), H6 CLK15P/DIFFIO_RX_T9P/DQ2T (io), H21 CLK18N/DIFFIO_RX_T87N/DQ12T (io), H34 CLK21N/DIFFIO_RX_T165N/DQSN22T/QK22T (io), J6 CLK15N/DIFFIO_RX_T9N/DQ2T (io), N33 CLK23N/DIFFIO_RX_T160N/DQ21T (io), N34 CLK23P/DIFFIO_RX_T160P/DQ21T (io)
part K pins: A34 MSEL1 (io), A36 NCONFIG (io), A37 MSEL3 (io), AE11 IO_4A/DATA6/DIFFIO_RX_B155P/DQ21B (io), AF10 IO_4A/DATA5/DIFFIO_RX_B155N/DQ21B (io), AH6 IO_4A/DATA7/DIFFIO_RX_B157N/DQSN21B/QK21B (io), AH9 IO_4A/DATA14/DIFFIO_TX_B158N (io), AH10 IO_4A/DATA10/DIFFIO_TX_B154N (io), AJ6 IO_4A/DATA8/DIFFIO_RX_B157P/DQS21B/CQ21B/CQN21B/QKN21B (io), AJ9 IO_4A/DATA15/DIFFIO_TX_B158P/DQ21B (io), AJ10 IO_4A/DATA11/DIFFIO_TX_B154P/DQ21B (io), AK6 IO_4A/DATA12/DIFFIO_TX_B156N (io), AL6 IO_4A/DATA13/DIFFIO_TX_B156P/DQ21B (io), AM6 IO_4A/DATA9/DIFFIO_RX_B159N/DQ21B (io), AM35 TMS (io), AN6 IO_4A_CLKUSR/DIFFIO_RX_B159P/DQ21B (io), AR33 AS_DATA2/DATA2 (io), AR34 NCSO/DATA4 (io), AT33 TDI (io), AT34 TDO (io), AU33 AS_DATA1/DATA1 (io), AU34 AS_DATA3/DATA3 (io), AV33 AS_DATA0,ASDO/DATA0 (io), AV34 TCK (io), AW34 DCLK (io), D35 MSEL2 (io), F35 NSTATUS (io), H35 MSEL0 (io), K6 IO_7A_DEV_OE/DIFFIO_RX_T10P/DQ2T (io), K35 CONF_DONE (io), L6 IO_7A_DEV_CLRN/DIFFIO_RX_T10N/DQ2T (io), L7 IO_7A_PR_DONE/DIFFIO_TX_T13P/DQ2T (io), L10 IO_7A_PR_ERROR/DIFFIO_TX_T15P/DQ2T (io), M6 IO_7A_PR_REQUEST/DIFFIO_TX_T13N (io), M7 IO_7A_INIT_DONE/DIFFIO_RX_T14P/DQ2T (io), M10 IO_7A_PR_READY/DIFFIO_TX_T15N (io), M35 NCE (io), N7 IO_7A_NCEO/DIFFIO_RX_T14N/DQ2T (io), N9 IO_7A_NPERSTL0/DIFFIO_TX_T11N (io), P9 IO_7A_CRC_ERROR/DIFFIO_RX_T12N/DQSN2T/QK2T (io), P10 IO_7A_CVP_CONFDONE/DIFFIO_RX_T12P/DQS2T/CQ2T/CQN2T/QKN2T (io), P34 MSEL4 (io)
part L pins: AA1 GXB_RX_R8P,GXB_REFCLK_R8P (io), AA2 GXB_RX_R8N,GXB_REFCLK_R8N (io), AA36 GXB_TX_L8N (io), AA37 GXB_TX_L8P (io), AB3 GXB_TX_R7P (io), AB4 GXB_TX_R7N (io), AB8 REFCLK2RN (io), AB9 REFCLK2RP (io), AB38 GXB_RX_L8N,GXB_REFCLK_L8N (io), AB39 GXB_RX_L8P,GXB_REFCLK_L8P (io), AC1 GXB_RX_R7P,GXB_REFCLK_R7P (io), AC2 GXB_RX_R7N,GXB_REFCLK_R7N (io), AC31 REFCLK2LP (io), AC32 REFCLK2LN (io), AC36 GXB_TX_L7N (io), AC37 GXB_TX_L7P (io), AD3 GXB_TX_R6P (io), AD4 GXB_TX_R6N (io), AD38 GXB_RX_L7N,GXB_REFCLK_L7N (io), AD39 GXB_RX_L7P,GXB_REFCLK_L7P (io), AE1 GXB_RX_R6P,GXB_REFCLK_R6P (io), AE2 GXB_RX_R6N,GXB_REFCLK_R6N (io), AE31 REFCLK1LP (io), AE32 REFCLK1LN (io), AE36 GXB_TX_L6N (io), AE37 GXB_TX_L6P (io), AF7 REFCLK0RN (io), AF8 REFCLK0RP (io), AF38 GXB_RX_L6N,GXB_REFCLK_L6N (io), AF39 GXB_RX_L6P,GXB_REFCLK_L6P (io), AG32 REFCLK0LP (io), AG33 REFCLK0LN (io), AG36 GXB_TX_L5N (io), AG37 GXB_TX_L5P (io), AH38 GXB_RX_L5N,GXB_REFCLK_L5N (io), AH39 GXB_RX_L5P,GXB_REFCLK_L5P (io), AJ36 GXB_TX_L4N (io), AJ37 GXB_TX_L4P (io), AK38 GXB_RX_L4N,GXB_REFCLK_L4N (io), AK39 GXB_RX_L4P,GXB_REFCLK_L4P (io), AL36 GXB_TX_L3N (io), AL37 GXB_TX_L3P (io), AM3 GXB_TX_R2P (io), AM4 GXB_TX_R2N (io), AM38 GXB_RX_L3N,GXB_REFCLK_L3N (io), AM39 GXB_RX_L3P,GXB_REFCLK_L3P (io), AN1 GXB_RX_R2P,GXB_REFCLK_R2P (io), AN2 GXB_RX_R2N,GXB_REFCLK_R2N (io), AN36 GXB_TX_L2N (io), AN37 GXB_TX_L2P (io), AP3 GXB_TX_R1P (io), AP4 GXB_TX_R1N (io), AP38 GXB_RX_L2N,GXB_REFCLK_L2N (io), AP39 GXB_RX_L2P,GXB_REFCLK_L2P (io), AR1 GXB_RX_R1P,GXB_REFCLK_R1P (io), AR2 GXB_RX_R1N,GXB_REFCLK_R1N (io), AR36 GXB_TX_L1N (io), AR37 GXB_TX_L1P (io), AT3 GXB_TX_R0P (io), AT4 GXB_TX_R0N (io), AT38 GXB_RX_L1N,GXB_REFCLK_L1N (io), AT39 GXB_RX_L1P,GXB_REFCLK_L1P (io), AU1 GXB_RX_R0P,GXB_REFCLK_R0P (io), AU2 GXB_RX_R0N,GXB_REFCLK_R0N (io), AU36 GXB_TX_L0N (io), AU37 GXB_TX_L0P (io), AW2 RREF_BR (io), AW36 GXB_RX_L0N,GXB_REFCLK_L0N (io), AW37 GXB_RX_L0P,GXB_REFCLK_L0P (io), B39 RREF_TL (io), P3 GXB_TX_R11P (io), P4 GXB_TX_R11N (io), R1 GXB_RX_R11P,GXB_REFCLK_R11P (io), R2 GXB_RX_R11N,GXB_REFCLK_R11N (io), T3 GXB_TX_R10P (io), T4 GXB_TX_R10N (io), U1 GXB_RX_R10P,GXB_REFCLK_R10P (io), U2 GXB_RX_R10N,GXB_REFCLK_R10N (io), V3 GXB_TX_R9P (io), V4 GXB_TX_R9N (io), W1 GXB_RX_R9P,GXB_REFCLK_R9P (io), W2 GXB_RX_R9N,GXB_REFCLK_R9N (io), Y3 GXB_TX_R8P (io), Y4 GXB_TX_R8N (io), Y8 REFCLK3RN (io), Y9 REFCLK3RP (io)
part M pins: AG10 VCCIO4A (power), AH29 VCCIO3A (power), AJ5 VCCIO4A (power), AJ15 VCCIO4C (power), AJ19 VCCIO4D (power), AJ22 VCCIO3D (power), AJ24 VCCIO3C (power), AJ30 VCCIO3A (power), AK13 VCCIO4B (power), AK18 VCCIO4D (power), AK28 VCCIO3B (power), AK35 VCCIO3A (power), AL5 VCCIO4A (power), AL21 VCCIO3D (power), AL25 VCCIO3C (power), AL27 VCCIO3B (power), AM12 VCCIO4B (power), AM15 VCCIO4C (power), AM19 VCCIO4D (power), AM22 VCCIO3D (power), AM24 VCCIO3C (power), AM30 VCCIO3A (power), AN5 VCCIO4A (power), AN10 VCCIO4B (power), AN13 VCCIO4B (power), AN18 VCCIO4D (power), AN28 VCCIO3B (power), AP21 VCCIO3D (power), AP25 VCCIO3C (power), AP35 VCCIO3A (power), AR5 VCCIO4A (power), AR12 VCCIO4B (power), AR15 VCCIO4C (power), AR19 VCCIO4D (power), AR22 VCCIO3D (power), AR24 VCCIO3C (power), AT10 VCCIO4B (power), AT18 VCCIO4D (power), AT28 VCCIO3B (power), AT35 VCCIO3A (power), AU5 VCCIO4A (power), AU21 VCCIO3D (power), AU25 VCCIO3C (power), AV15 VCCIO4C (power), B19 VCCIO7D (power), B35 VCCIO8A (power), C13 VCCIO7B (power), C21 VCCIO8D (power), C25 VCCIO8C (power), D10 VCCIO7B (power), D18 VCCIO7D (power), D22 VCCIO8D (power), D27 VCCIO8C (power), E5 VCCIO7A (power), E19 VCCIO7D (power), E28 VCCIO8B (power), E30 VCCIO8B (power), F13 VCCIO7B (power), F16 VCCIO7C (power), F21 VCCIO8D (power), F25 VCCIO8C (power), G5 VCCIO7A (power), G10 VCCIO7B (power), G15 VCCIO7C (power), G18 VCCIO7D (power), G22 VCCIO8D (power), G27 VCCIO8C (power), G31 VCCIO8A (power), G33 VCCIO8A (power), H7 VCCIO7A (power), H19 VCCIO7D (power), H30 VCCIO8B (power), J5 VCCIO7A (power), J25 VCCIO8C (power), K10 VCCIO7B (power), K15 VCCIO7C (power), K22 VCCIO8D (power), K28 VCCIO8B (power), K31 VCCIO8A (power), K33 VCCIO8A (power), L5 VCCIO7A (power), L13 VCCIO7B (power), L16 VCCIO7C (power), L21 VCCIO8D (power), M9 VCCIO7A (power), M18 VCCIO7D (power), M24 VCCIO8C (power), P33 VCCIO8A (power)
part N pins: AA10 VCC (power), AA12 VCC (power), AA14 VCC (power), AA16 VCC (power), AA18 VCC (power), AA20 VCC (power), AA21 VCCP (power), AA22 VCC (power), AA24 VCC (power), AA25 VCCP (power), AA26 VCC (power), AA27 VCCPD3 (power), AA28 VCCPD3 (power), AA29 VCCPD3 (power), AB11 VCC (power), AB12 VCCPD4BCD (power), AB13 VCCPD4BCD (power), AB14 VCC_AUX (power), AB15 VCCP (power), AB16 VCCPD4BCD (power), AB17 VCC (power), AB18 VCCPD4BCD (power), AB19 VCCPD4BCD (power), AB22 VCCPD3 (power), AB23 VCCPD3 (power), AB24 VCCPD3 (power), AB26 VCC_AUX (power), AB30 VCCPD3 (power), AC10 VCCPD4A (power), AE10 VCCPD4A (power), AG29 VCCPGM (power), N11 VCCPGM (power), P8 VCCPD7A (power), R10 VCCPD7A (power), R32 VCCPD8 (power), R33 VCCBAT (power), T12 VCCPD7BCD (power), T13 VCCPD7BCD (power), T16 VCCPD7BCD (power), T30 VCCPD8 (power), U10 VCC (power), U12 VCC (power), U14 VCC_AUX (power), U16 VCCP (power), U18 VCCPD7BCD (power), U19 VCCPD7BCD (power), U21 VCCPD8 (power), U22 VCCPD8 (power), U24 VCCPD8 (power), U26 VCCPD8 (power), U28 VCC_AUX (power), U29 VCCPD8 (power), V11 VCC (power), V13 VCCP (power), V15 VCC (power), V17 VCC (power), V22 VCCP (power), V23 VCC (power), V25 VCCP (power), V27 VCCP (power), V29 VCC (power), W10 VCC (power), W12 VCC (power), W14 VCC (power), W16 VCC (power), W18 VCC (power), W20 VCC (power), W22 VCC (power), W24 VCC (power), W26 VCC (power), W28 VCC (power), Y11 VCC (power), Y13 VCCP (power), Y15 VCC (power), Y17 VCC (power), Y19 VCC (power), Y21 VCC (power), Y23 VCC (power), Y25 VCC (power), Y27 VCCP (power), Y29 VCC (power)
part O pins: AA5 VCCT_GXBR1 (power), AA7 VCCA_GXBR1 (power), AA9 VCCA_FPLL (power), AA34 VCCT_GXBL1 (power), AB5 VCCR_GXBR (power), AB6 VCCR_GXBR (power), AB20 VCCD_FPLL (power), AB21 VCCA_FPLL (power), AB33 VCCA_GXBL1 (power), AB35 VCCT_GXBL1 (power), AC5 VCCL_GXBR0 (power), AC6 VCCL_GXBR0 (power), AC7 VCCH_GXBR0 (power), AC9 VCCA_FPLL (power), AC30 VCCA_FPLL (power), AC34 VCCR_GXBL (power), AC35 VCCR_GXBL (power), AD6 VCCT_GXBR0 (power), AD31 VCCD_FPLL (power), AD33 VCCH_GXBL0 (power), AD34 VCCL_GXBL0 (power), AD35 VCCL_GXBL0 (power), AE5 VCCT_GXBR0 (power), AE7 VCCA_GXBR0 (power), AE9 VCCD_FPLL (power), AE34 VCCT_GXBL0 (power), AF5 VCCR_GXBR (power), AF6 VCCR_GXBR (power), AF33 VCCA_GXBL0 (power), AF35 VCCT_GXBL0 (power), AG34 VCCR_GXBL (power), AG35 VCCR_GXBL (power), P5 VCCR_GXBR (power), R5 VCCL_GXBR2 (power), R6 VCCL_GXBR2 (power), R7 VCCH_GXBR2 (power), R9 VCCD_FPLL (power), R35 VCCR_GXBL (power), T6 VCCT_GXBR2 (power), T31 VCCD_FPLL (power), T33 VCCH_GXBL2 (power), T34 VCCL_GXBL2 (power), T35 VCCL_GXBL2 (power), U5 VCCT_GXBR2 (power), U7 VCCA_GXBR2 (power), U9 VCCA_FPLL (power), U34 VCCT_GXBL2 (power), V5 VCCR_GXBR (power), V6 VCCR_GXBR (power), V19 VCCD_FPLL (power), V20 VCCA_FPLL (power), V31 VCCA_FPLL (power), V33 VCCA_GXBL2 (power), V35 VCCT_GXBL2 (power), W5 VCCL_GXBR1 (power), W6 VCCL_GXBR1 (power), W7 VCCH_GXBR1 (power), W9 VCCD_FPLL (power), W30 VCCD_FPLL (power), W34 VCCR_GXBL (power), W35 VCCR_GXBL (power), Y6 VCCT_GXBR1 (power), Y30 VCCA_FPLL (power), Y33 VCCH_GXBL1 (power), Y34 VCCL_GXBL1 (power), Y35 VCCL_GXBL1 (power)
part P pins: A2 GND (power), A3 GND (power), A4 GND (power), A5 GND (power), AA3 GND (power), AA4 GND (power), AA6 GND (power), AA8 GND (power), AA11 GND (power), AA13 GND (power), AA15 GND (power), AA17 GND (power), AA19 GND (power), AA23 GND (power), AA30 GND (power), AA31 GND (power), AA32 GND (power), AA33 GND (power), AA35 GND (power), AA38 GND (power), AA39 GND (power), AB1 GND (power), AB2 GND (power), AB7 GND (power), AB10 GND (power), AB31 GND (power), AB32 GND (power), AB34 GND (power), AB36 GND (power), AB37 GND (power), AC3 GND (power), AC4 GND (power), AC8 GND (power), AC11 GND (power), AC14 GND (power), AC17 GND (power), AC20 GND (power), AC23 GND (power), AC26 GND (power), AC28 GND (power), AC33 GND (power), AC38 GND (power), AC39 GND (power), AD1 GND (power), AD2 GND (power), AD5 GND (power), AD7 GND (power), AD8 GND (power), AD9 GND (power), AD10 GND (power), AD30 GND (power), AD32 GND (power), AD36 GND (power), AD37 GND (power), AE3 GND (power), AE4 GND (power), AE6 GND (power), AE8 GND (power), AE30 GND (power), AE33 GND (power), AE35 GND (power), AE38 GND (power), AE39 GND (power), AF1 GND (power), AF2 GND (power), AF9 GND (power), AF11 GND (power), AF14 GND (power), AF17 GND (power), AF20 GND (power), AF23 GND (power), AF26 GND (power), AF29 GND (power), AF30 GND (power), AF31 GND (power), AF32 GND (power), AF34 GND (power), AF36 GND (power), AF37 GND (power), AG1 GND (power), AG2 GND (power), AG3 GND (power), AG4 GND (power), AG5 GND (power), AG6 GND (power), AG7 GND (power), AG8 GND (power), AG9 GND (power), AG31 GND (power), AG38 GND (power), AG39 GND (power), AH1 GND (power), AH2 GND (power), AH5 GND (power), AH32 GND (power), AH33 GND (power), AH34 GND (power), AH35 GND (power), AH36 GND (power), AH37 GND (power), AJ1 GND (power), AJ2 GND (power), AJ3 GND (power), AJ4 GND (power), AJ8 GND (power), AJ11 GND (power), AJ14 GND (power), AJ17 GND (power), AJ20 GND (power), AJ23 GND (power), AJ26 GND (power), AJ29 GND (power), AJ32 GND (power), AJ35 GND (power), AJ38 GND (power), AJ39 GND (power), AK1 GND (power), AK2 GND (power), AK5 GND (power), AK36 GND (power), AK37 GND (power), AL1 GND (power), AL2 GND (power), AL3 GND (power), AL4 GND (power), AL35 GND (power), AL38 GND (power), AL39 GND (power), AM1 GND (power), AM2 GND (power), AM5 GND (power), AM8 GND (power), AM11 GND (power), AM14 GND (power), AM17 GND (power), AM20 GND (power), AM23 GND (power), AM26 GND (power), AM29 GND (power), AM32 GND (power), AM36 GND (power), AM37 GND (power), AN3 GND (power), AN4 GND (power), AN35 GND (power), AN38 GND (power), AN39 GND (power), AP1 GND (power), AP2 GND (power), AP5 GND (power), AP36 GND (power), AP37 GND (power), AR3 GND (power), AR4 GND (power), AR8 GND (power), AR11 GND (power), AR14 GND (power), AR17 GND (power), AR20 GND (power), AR23 GND (power), AR26 GND (power), AR29 GND (power), AR32 GND (power), AR35 GND (power), AR38 GND (power), AR39 GND (power), AT1 GND (power), AT2 GND (power), AT5 GND (power), AT36 GND (power), AT37 GND (power), AU3 GND (power), AU4 GND (power), AU35 GND (power), AU38 GND (power), AU39 GND (power), AV1 GND (power), AV2 GND (power), AV5 GND (power), AV8 GND (power), AV11 GND (power), AV14 GND (power), AV17 GND (power), AV20 GND (power), AV23 GND (power), AV26 GND (power), AV29 GND (power), AV32 GND (power), AV35 GND (power), AV36 GND (power), AV37 GND (power), AV38 GND (power), AV39 GND (power), AW35 GND (power), AW38 GND (power), B1 GND (power), B2 GND (power), B5 GND (power), B8 GND (power), B11 GND (power), B14 GND (power), B17 GND (power), B20 GND (power), B23 GND (power), B26 GND (power), B29 GND (power), B32 GND (power), B36 GND (power), B37 GND (power), C1 GND (power), C2 GND (power), C3 GND (power), C4 GND (power), C35 GND (power), C38 GND (power), C39 GND (power)
part Q pins: D1 GND (power), D2 GND (power), D5 GND (power), D36 GND (power), D37 GND (power), D38 GND (power), D39 GND (power), E1 GND (power), E2 GND (power), E3 GND (power), E4 GND (power), E8 GND (power), E11 GND (power), E14 GND (power), E17 GND (power), E20 GND (power), E23 GND (power), E26 GND (power), E29 GND (power), E32 GND (power), E35 GND (power), E38 GND (power), E39 GND (power), F1 GND (power), F2 GND (power), F5 GND (power), F36 GND (power), F37 GND (power), F38 GND (power), F39 GND (power), G1 GND (power), G2 GND (power), G3 GND (power), G4 GND (power), G35 GND (power), G38 GND (power), G39 GND (power), H1 GND (power), H2 GND (power), H5 GND (power), H8 GND (power), H11 GND (power), H14 GND (power), H17 GND (power), H20 GND (power), H23 GND (power), H26 GND (power), H29 GND (power), H32 GND (power), H36 GND (power), H37 GND (power), H38 GND (power), H39 GND (power), J1 GND (power), J2 GND (power), J3 GND (power), J4 GND (power), J35 GND (power), J38 GND (power), J39 GND (power), K1 GND (power), K2 GND (power), K5 GND (power), K36 GND (power), K37 GND (power), K38 GND (power), K39 GND (power), L1 GND (power), L2 GND (power), L3 GND (power), L4 GND (power), L8 GND (power), L11 GND (power), L14 GND (power), L17 GND (power), L20 GND (power), L23 GND (power), L26 GND (power), L29 GND (power), L32 GND (power), L35 GND (power), L38 GND (power), L39 GND (power), M1 GND (power), M2 GND (power), M5 GND (power), M36 GND (power), M37 GND (power), M38 GND (power), M39 GND (power), N1 GND (power), N2 GND (power), N3 GND (power), N4 GND (power), N5 GND (power), N6 GND (power), N8 GND (power), N35 GND (power), N38 GND (power), N39 GND (power), P1 GND (power), P2 GND (power), P6 GND (power), P7 GND (power), P11 GND (power), P14 GND (power), P17 GND (power), P20 GND (power), P23 GND (power), P26 GND (power), P29 GND (power), P32 GND (power), P35 GND (power), P36 GND (power), P37 GND (power), P38 GND (power), P39 GND (power), R3 GND (power), R4 GND (power), R8 GND (power), R34 GND (power), R38 GND (power), R39 GND (power), T1 GND (power), T2 GND (power), T5 GND (power), T7 GND (power), T8 GND (power), T9 GND (power), T10 GND (power), T32 GND (power), T36 GND (power), T37 GND (power), T38 GND (power), T39 GND (power), U3 GND (power), U4 GND (power), U6 GND (power), U8 GND (power), U11 GND (power), U13 GND (power), U15 GND (power), U17 GND (power), U20 GND (power), U23 GND (power), U25 GND (power), U27 GND (power), U30 GND (power), U31 GND (power), U32 GND (power), U33 GND (power), U35 GND (power), U38 GND (power), U39 GND (power), V1 GND (power), V2 GND (power), V7 GND (power), V8 GND (power), V9 GND (power), V10 GND (power), V12 GND (power), V14 GND (power), V16 GND (power), V18 GND (power), V21 GND (power), V24 GND (power), V26 GND (power), V28 GND (power), V30 GND (power), V32 GND (power), V34 GND (power), V36 GND (power), V37 GND (power), V38 GND (power), V39 GND (power), W3 GND (power), W4 GND (power), W8 GND (power), W11 GND (power), W13 GND (power), W15 GND (power), W17 GND (power), W19 GND (power), W21 GND (power), W23 GND (power), W25 GND (power), W27 GND (power), W29 GND (power), W31 GND (power), W32 GND (power), W33 GND (power), W38 GND (power), W39 GND (power), Y1 GND (power), Y2 GND (power), Y5 GND (power), Y7 GND (power), Y10 GND (power), Y12 GND (power), Y14 GND (power), Y16 GND (power), Y18 GND (power), Y20 GND (power), Y22 GND (power), Y24 GND (power), Y26 GND (power), Y28 GND (power), Y31 GND (power), Y32 GND (power), Y36 GND (power), Y37 GND (power), Y38 GND (power), Y39 GND (power)
part R pins: A38 DNU (io), AE20 DNU (io), AF3 DNU (io), AF4 DNU (io), AH3 DNU (io), AH4 DNU (io), AH31 DNU (io), AK3 DNU (io), AK4 DNU (io), AV3 DNU (io), AW3 DNU (io), B3 DNU (io), B4 DNU (io), B38 DNU (io), C5 DNU (io), C36 DNU (io), C37 DNU (io), D3 DNU (io), D4 DNU (io), E36 DNU (io), E37 DNU (io), F3 DNU (io), F4 DNU (io), G36 DNU (io), G37 DNU (io), H3 DNU (io), H4 DNU (io), J36 DNU (io), J37 DNU (io), K3 DNU (io), K4 DNU (io), L36 DNU (io), L37 DNU (io), M3 DNU (io), M4 DNU (io), N36 DNU (io), N37 DNU (io), P21 DNU (io), R36 DNU (io), R37 DNU (io), U36 DNU (io), U37 DNU (io), W36 DNU (io), W37 DNU (io)

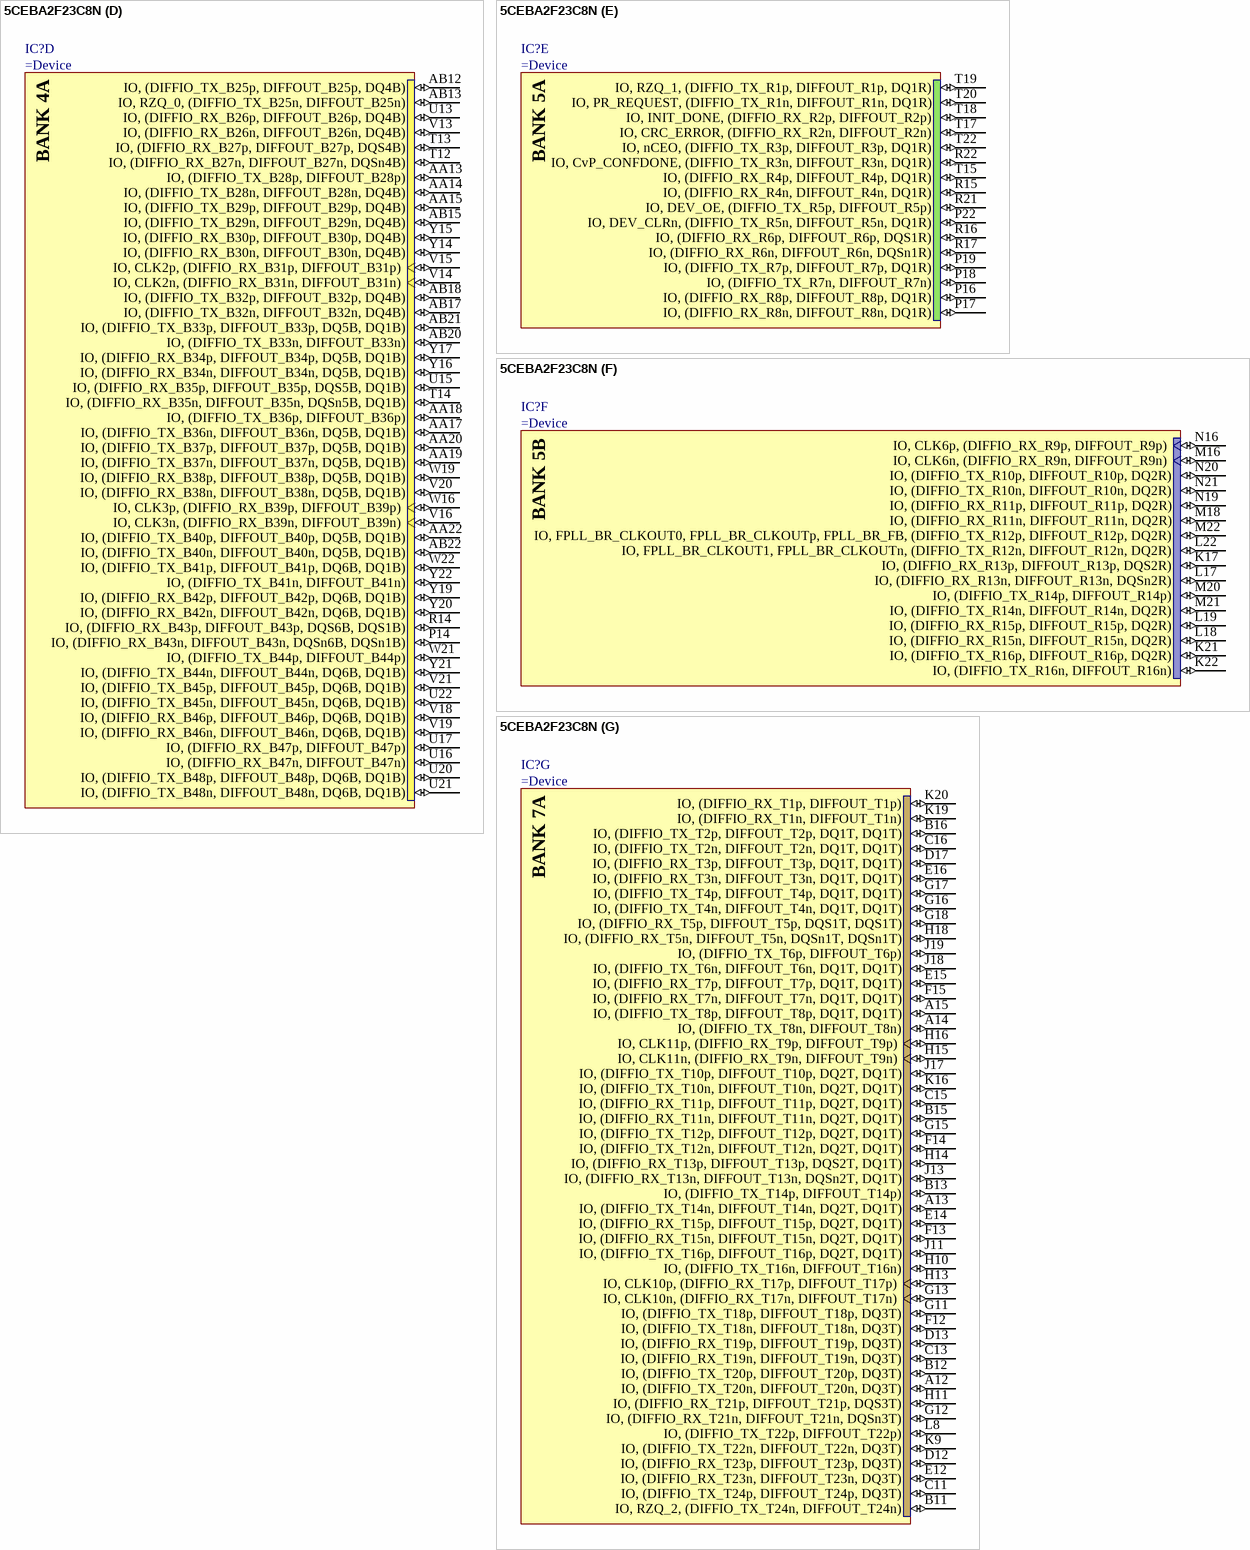
[diagram p6: symbol 5CEBA2F23C8N]

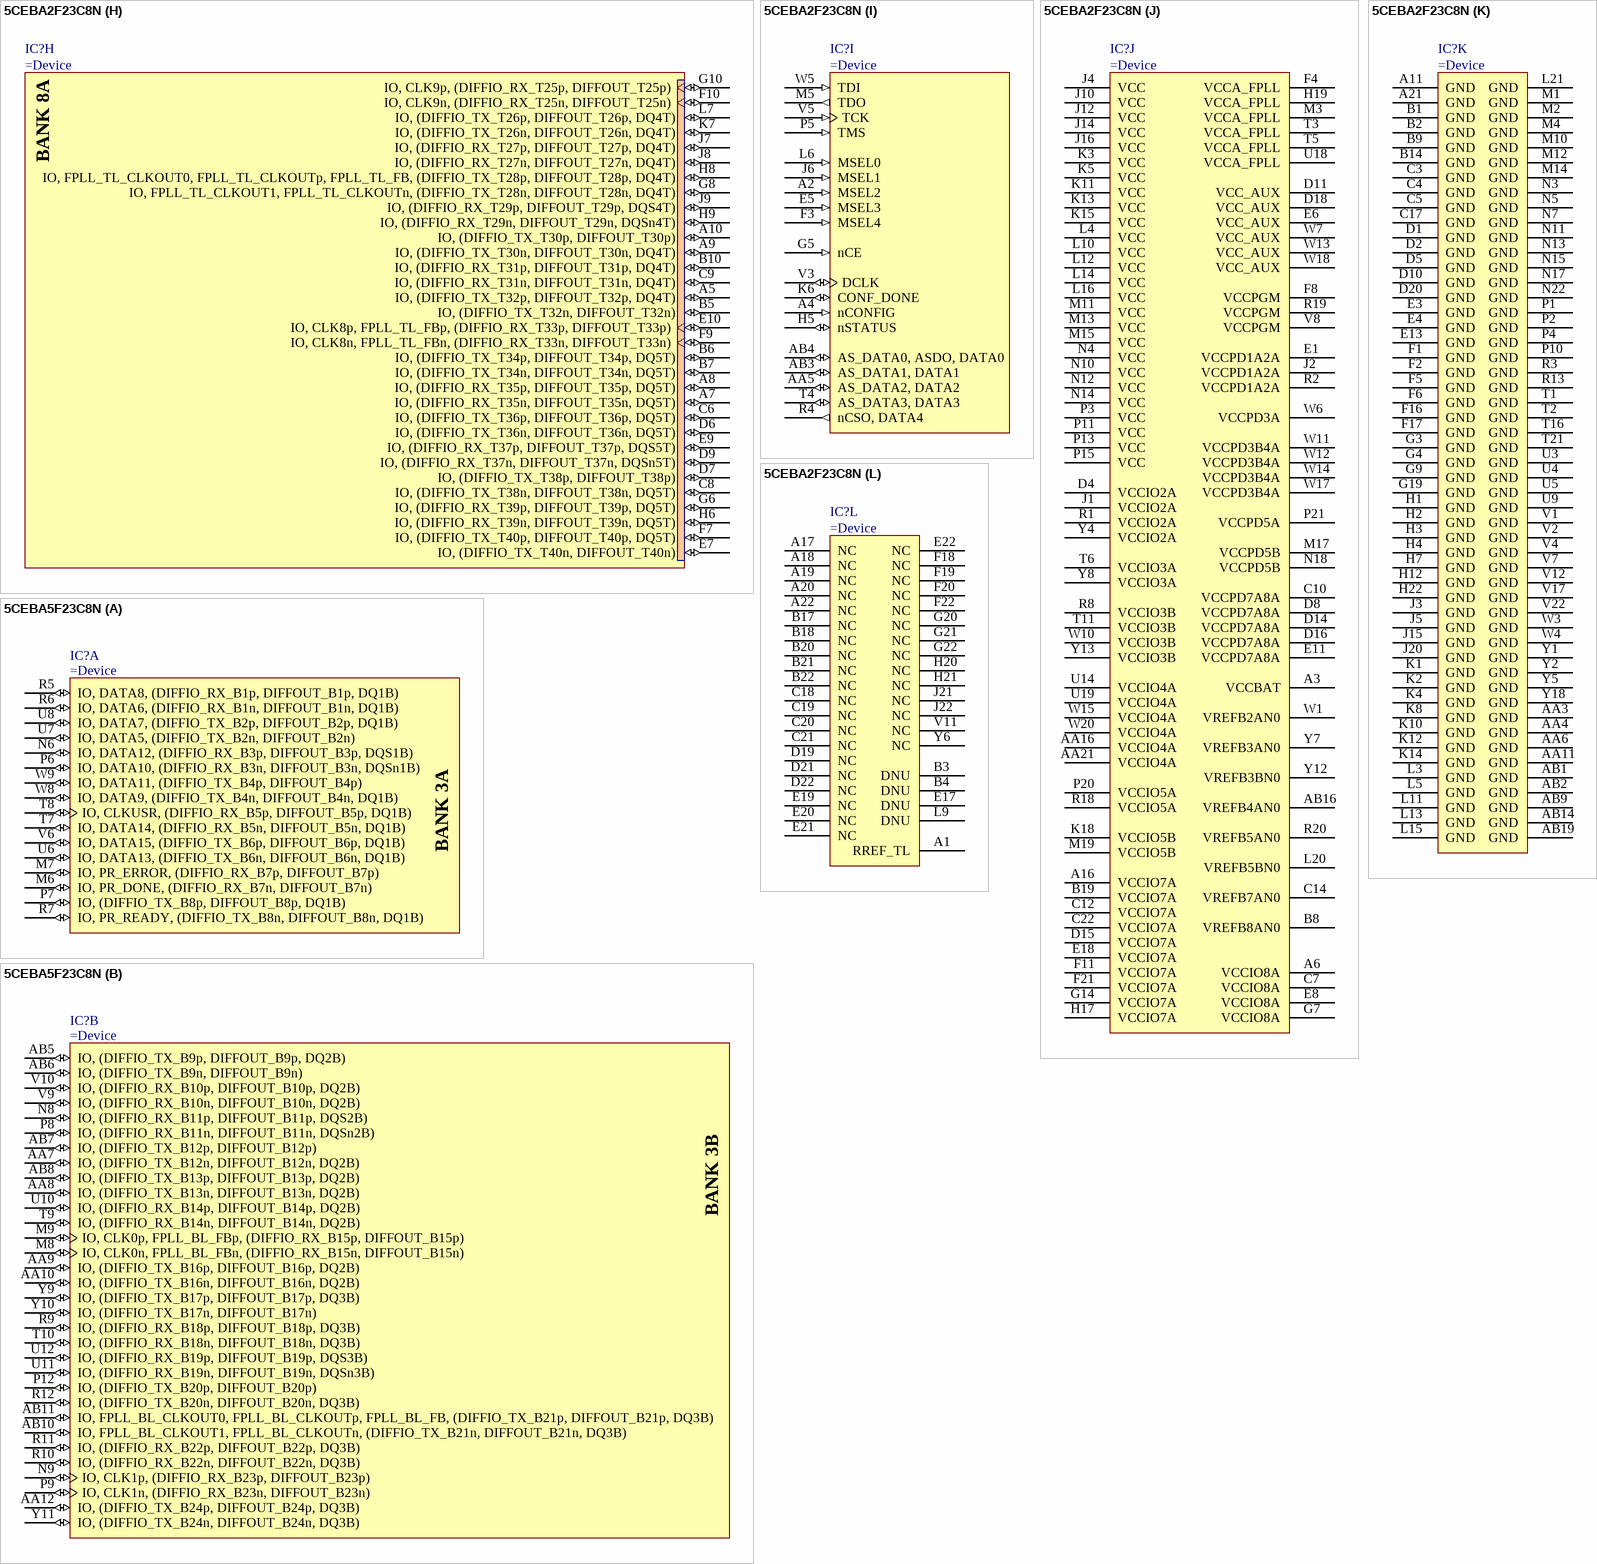
[diagram p7: symbols 5CEBA2F23C8N to 5CEBA5F23C8N]